# EAGLE library part XC5VLX110T-FF1738 (library xilinx-virtex-v5)
xc5vlx110t_ff1738 edit this description Auto generated by make-symbol-device-package-bsdl.ulp Rev. 21 Source: xc5vlx110t_ff1738.bsd Connect-List generated from XC5VLX110T_FF1738.DEV Variant '' with split-device-symbol.ulp
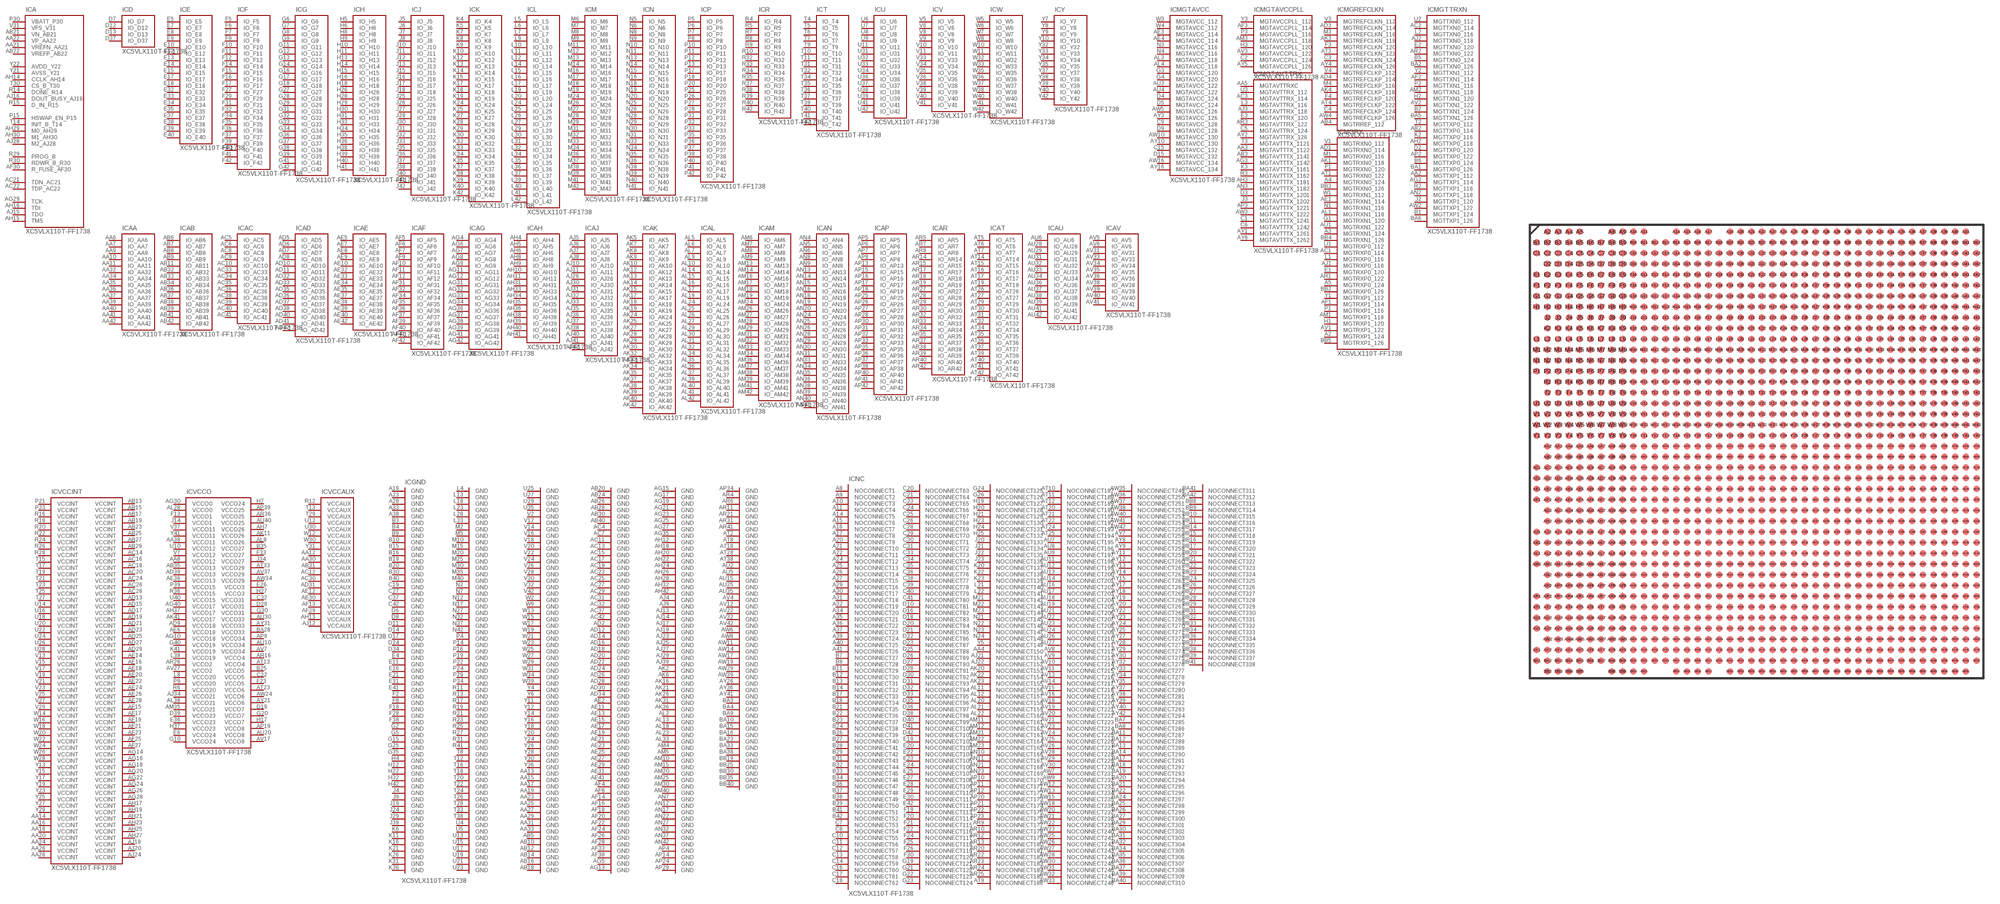
[diagram p1: symbol with the pads of FF1738; footprint FF1738]

Designator prefix IC; gates A=XC5VLX110T_FF1738-CONTROL D=XC5VLX110T_FF1738-IO-D E=XC5VLX110T_FF1738-IO-E F=XC5VLX110T_FF1738-IO-F G=XC5VLX110T_FF1738-IO-G H=XC5VLX110T_FF1738-IO-H J=XC5VLX110T_FF1738-IO-J K=XC5VLX110T_FF1738-IO-K L=XC5VLX110T_FF1738-IO-L M=XC5VLX110T_FF1738-IO-M N=XC5VLX110T_FF1738-IO-N P=XC5VLX110T_FF1738-IO-P R=XC5VLX110T_FF1738-IO-R T=XC5VLX110T_FF1738-IO-T U=XC5VLX110T_FF1738-IO-U V=XC5VLX110T_FF1738-IO-V W=XC5VLX110T_FF1738-IO-W Y=XC5VLX110T_FF1738-IO-Y AA=XC5VLX110T_FF1738-IO-AA AB=XC5VLX110T_FF1738-IO-AB AC=XC5VLX110T_FF1738-IO-AC AD=XC5VLX110T_FF1738-IO-AD AE=XC5VLX110T_FF1738-IO-AE AF=XC5VLX110T_FF1738-IO-AF AG=XC5VLX110T_FF1738-IO-AG AH=XC5VLX110T_FF1738-IO-AH AJ=XC5VLX110T_FF1738-IO-AJ AK=XC5VLX110T_FF1738-IO-AK AL=XC5VLX110T_FF1738-IO-AL AM=XC5VLX110T_FF1738-IO-AM AN=XC5VLX110T_FF1738-IO-AN AP=XC5VLX110T_FF1738-IO-AP AR=XC5VLX110T_FF1738-IO-AR AT=XC5VLX110T_FF1738-IO-AT AU=XC5VLX110T_FF1738-IO-AU AV=XC5VLX110T_FF1738-IO-AV MGTAVTTRX=XC5VLX110T_FF1738-MGTAVTTRX MGREFCLKN=XC5VLX110T_FF1738-MGTREFCLKN MGRX=XC5VLX110T_FF1738-MGTRX MGTTRXN=XC5VLX110T_FF1738-MGTTXN VCCINT=XC5VLX110T_FF1738-VCCINT VCCO=XC5VLX110T_FF1738-VCCO VCCAUX=XC5VLX110T_FF1738-VCCAUX MGTAVCC=XC5VLX110T_FF1738-MGTAVCC MGTAVCCPLL=XC5VLX110T_FF1738-MGTAVCCPLL GND=XC5VLX110T_FF1738-GND NC=XC5VLX110T_FF1738-NOCONNECT

## XC5VLX110T-FF1738  [FF1738]
A2  MGRX:MGTRXP1_124  pas
A3  MGRX:MGTRXN1_124  pas
A4  MGRX:MGTRXN0_124  pas
A5  MGRX:MGTRXP0_124  pas
A8  NC:NOCONNECT1  pas
A9  NC:NOCONNECT2  pas
A10  NC:NOCONNECT3  pas
A11  NC:NOCONNECT4  pas
A14  NC:NOCONNECT5  pas
A15  NC:NOCONNECT6  pas
A16  NC:NOCONNECT7  pas
A17  NC:NOCONNECT8  pas
A19  GND:GND  pwr
A20  NC:NOCONNECT9  pas
A21  NC:NOCONNECT10  pas
A22  NC:NOCONNECT11  pas
A23  GND:GND  pwr
A24  NC:NOCONNECT12  pas
A25  NC:NOCONNECT13  pas
A26  NC:NOCONNECT14  pas
A27  NC:NOCONNECT15  pas
A28  GND:GND  pwr
A29  NC:NOCONNECT16  pas
A30  NC:NOCONNECT17  pas
A31  NC:NOCONNECT18  pas
A32  NC:NOCONNECT19  pas
A33  GND:GND  pwr
A34  NC:NOCONNECT20  pas
A35  NC:NOCONNECT21  pas
A36  NC:NOCONNECT22  pas
A37  NC:NOCONNECT23  pas
A38  GND:GND  pwr
A39  NC:NOCONNECT24  pas
A40  NC:NOCONNECT25  pas
A41  NC:NOCONNECT26  pas
AA2  MGTTRXN:MGTTXP1_112  pas
AA3  MGTAVTTRX:MGTAVTTTX_1122  pas
AA4  NC:NOCONNECT150  pas
AA5  MGTAVTTRX:MGTAVTTRXC  pas
AA6  AA:IO_AA6
AA7  AA:IO_AA7
AA8  VCCO:VCCO12  pwr
AA9  AA:IO_AA9
AA10  AA:IO_AA10
AA11  AA:IO_AA11
AA12  VCCAUX:VCCAUX  pwr
AA13  GND:GND  pwr
AA14  VCCINT:VCCINT  pwr
AA15  GND:GND  pwr
AA16  VCCINT:VCCINT  pwr
AA17  GND:GND  pwr
AA18  VCCINT:VCCINT  pwr
AA19  GND:GND  pwr
AA20  VCCINT:VCCINT  pwr
AA21  A:VREFN_AA21  pas
AA22  A:VP_AA22  pas
AA23  GND:GND  pwr
AA24  VCCINT:VCCINT  pwr
AA25  GND:GND  pwr
AA26  VCCINT:VCCINT  pwr
AA27  GND:GND  pwr
AA28  VCCINT:VCCINT  pwr
AA29  GND:GND  pwr
AA30  VCCAUX:VCCAUX  pwr
AA31  GND:GND  pwr
AA32  AA:IO_AA32
AA33  GND:GND  pwr
AA34  AA:IO_AA34
AA35  AA:IO_AA35
AA36  AA:IO_AA36
AA37  AA:IO_AA37
AA38  VCCO:VCCO11  pwr
AA39  AA:IO_AA39
AA40  AA:IO_AA40
AA41  AA:IO_AA41
AA42  AA:IO_AA42
AB2  MGTTRXN:MGTTXP0_114  pas
AB3  MGTAVTTRX:MGTAVTTTX_1141  pas
AB4  MGREFCLKN:MGTRREF_112  pas
AB5  GND:GND  pwr
AB6  AB:IO_AB6
AB7  AB:IO_AB7
AB8  AB:IO_AB8
AB9  AB:IO_AB9
AB10  GND:GND  pwr
AB11  AB:IO_AB11
AB12  GND:GND  pwr
AB13  VCCINT:VCCINT  pwr
AB14  GND:GND  pwr
AB15  VCCINT:VCCINT  pwr
AB16  GND:GND  pwr
AB17  VCCINT:VCCINT  pwr
AB18  GND:GND  pwr
AB19  VCCINT:VCCINT  pwr
AB20  GND:GND  pwr
AB21  A:VN_AB21  pas
AB22  A:VREFP_AB22  pas
AB23  VCCINT:VCCINT  pwr
AB24  GND:GND  pwr
AB25  VCCINT:VCCINT  pwr
AB26  GND:GND  pwr
AB27  VCCINT:VCCINT  pwr
AB28  GND:GND  pwr
AB29  VCCINT:VCCINT  pwr
AB30  GND:GND  pwr
AB31  VCCAUX:VCCAUX  pwr
AB32  AB:IO_AB32
AB33  AB:IO_AB33
AB34  AB:IO_AB34
AB35  VCCO:VCCO13  pwr
AB36  AB:IO_AB36
AB37  AB:IO_AB37
AB38  AB:IO_AB38
AB39  AB:IO_AB39
AB40  GND:GND  pwr
AB41  AB:IO_AB41
AB42  AB:IO_AB42
AC1  MGRX:MGTRXP0_114  pas
AC2  MGTTRXN:MGTTXN0_114  pas
AC3  MGTAVTTRX:MGTAVTTRX_114  pas
AC4  GND:GND  pwr
AC5  AC:IO_AC5
AC6  AC:IO_AC6
AC7  GND:GND  pwr
AC8  AC:IO_AC8
AC9  AC:IO_AC9
AC10  AC:IO_AC10
AC11  GND:GND  pwr
AC12  VCCAUX:VCCAUX  pwr
AC13  GND:GND  pwr
AC14  VCCINT:VCCINT  pwr
AC15  GND:GND  pwr
AC16  VCCINT:VCCINT  pwr
AC17  GND:GND  pwr
AC18  VCCINT:VCCINT  pwr
AC19  GND:GND  pwr
AC20  VCCINT:VCCINT  pwr
AC21  A:TDN_AC21  pas
AC22  A:TDP_AC22  pas
AC23  GND:GND  pwr
AC24  VCCINT:VCCINT  pwr
AC25  GND:GND  pwr
AC26  VCCINT:VCCINT  pwr
AC27  GND:GND  pwr
AC28  VCCINT:VCCINT  pwr
AC29  GND:GND  pwr
AC30  VCCAUX:VCCAUX  pwr
AC31  GND:GND  pwr
AC32  GND:GND  pwr
AC33  AC:IO_AC33
AC34  AC:IO_AC34
AC35  AC:IO_AC35
AC36  AC:IO_AC36
AC37  GND:GND  pwr
AC38  AC:IO_AC38
AC39  AC:IO_AC39
AC40  AC:IO_AC40
AC41  AC:IO_AC41
AC42  GND:GND  pwr
AD1  MGRX:MGTRXN0_114  pas
AD2  GND:GND  pwr
AD3  MGREFCLKN:MGTREFCLKN_114  pas
AD4  MGREFCLKN:MGTREFCLKP_114  pas
AD5  AD:IO_AD5
AD6  AD:IO_AD6
AD7  AD:IO_AD7
AD8  AD:IO_AD8
AD9  VCCO:VCCO18  pwr
AD10  AD:IO_AD10
AD11  AD:IO_AD11
AD12  GND:GND  pwr
AD13  VCCINT:VCCINT  pwr
AD14  GND:GND  pwr
AD15  VCCINT:VCCINT  pwr
AD16  GND:GND  pwr
AD17  VCCINT:VCCINT  pwr
AD18  GND:GND  pwr
AD19  VCCINT:VCCINT  pwr
AD20  GND:GND  pwr
AD21  VCCINT:VCCINT  pwr
AD22  GND:GND  pwr
AD23  VCCINT:VCCINT  pwr
AD24  GND:GND  pwr
AD25  VCCINT:VCCINT  pwr
AD26  GND:GND  pwr
AD27  VCCINT:VCCINT  pwr
AD28  GND:GND  pwr
AD29  VCCINT:VCCINT  pwr
AD30  GND:GND  pwr
AD31  VCCAUX:VCCAUX  pwr
AD32  AD:IO_AD32
AD33  AD:IO_AD33
AD34  GND:GND  pwr
AD35  AD:IO_AD35
AD36  AD:IO_AD36
AD37  AD:IO_AD37
AD38  AD:IO_AD38
AD39  VCCO:VCCO13  pwr
AD40  AD:IO_AD40
AD41  AD:IO_AD41
AD42  AD:IO_AD42
AE1  MGRX:MGTRXN1_114  pas
AE2  GND:GND  pwr
AE3  MGTAVCC:MGTAVCC_114  pwr
AE4  MGTAVCC:MGTAVCC_114  pwr
AE5  AE:IO_AE5
AE6  VCCO:VCCO18  pwr
AE7  AE:IO_AE7
AE8  AE:IO_AE8
AE9  AE:IO_AE9
AE10  AE:IO_AE10
AE11  GND:GND  pwr
AE12  VCCAUX:VCCAUX  pwr
AE13  GND:GND  pwr
AE14  VCCINT:VCCINT  pwr
AE15  GND:GND  pwr
AE16  VCCINT:VCCINT  pwr
AE17  GND:GND  pwr
AE18  VCCINT:VCCINT  pwr
AE19  GND:GND  pwr
AE20  VCCINT:VCCINT  pwr
AE21  GND:GND  pwr
AE22  VCCINT:VCCINT  pwr
AE23  GND:GND  pwr
AE24  VCCINT:VCCINT  pwr
AE25  GND:GND  pwr
AE26  VCCINT:VCCINT  pwr
AE27  GND:GND  pwr
AE28  VCCINT:VCCINT  pwr
AE29  GND:GND  pwr
AE30  VCCAUX:VCCAUX  pwr
AE31  GND:GND  pwr
AE32  AE:IO_AE32
AE33  AE:IO_AE33
AE34  AE:IO_AE34
AE35  AE:IO_AE35
AE36  VCCO:VCCO13  pwr
AE37  AE:IO_AE37
AE38  AE:IO_AE38
AE39  AE:IO_AE39
AE40  AE:IO_AE40
AE41  GND:GND  pwr
AE42  AE:IO_AE42
AF1  MGRX:MGTRXP1_114  pas
AF2  MGTTRXN:MGTTXN1_114  pas
AF3  MGTAVCCPLL:MGTAVCCPLL_114  pwr
AF4  GND:GND  pwr
AF5  AF:IO_AF5
AF6  AF:IO_AF6
AF7  AF:IO_AF7
AF8  GND:GND  pwr
AF9  AF:IO_AF9
AF10  AF:IO_AF10
AF11  AF:IO_AF11
AF12  AF:IO_AF12
AF13  VCCAUX:VCCAUX  pwr
AF14  GND:GND  pwr
AF15  VCCINT:VCCINT  pwr
AF16  GND:GND  pwr
AF17  VCCINT:VCCINT  pwr
AF18  GND:GND  pwr
AF19  VCCINT:VCCINT  pwr
AF20  GND:GND  pwr
AF21  VCCINT:VCCINT  pwr
AF22  GND:GND  pwr
AF23  VCCINT:VCCINT  pwr
AF24  GND:GND  pwr
AF25  VCCINT:VCCINT  pwr
AF26  GND:GND  pwr
AF27  VCCINT:VCCINT  pwr
AF28  GND:GND  pwr
AF29  VCCAUX:VCCAUX  pwr
AF30  A:R_FUSE_AF30  pas
AF31  AF:IO_AF31
AF32  AF:IO_AF32
AF33  GND:GND  pwr
AF34  AF:IO_AF34
AF35  AF:IO_AF35
AF36  AF:IO_AF36
AF37  AF:IO_AF37
AF38  GND:GND  pwr
AF39  AF:IO_AF39
AF40  AF:IO_AF40
AF41  AF:IO_AF41
AF42  AF:IO_AF42
AG2  MGTTRXN:MGTTXP1_114  pas
AG3  MGTAVTTRX:MGTAVTTTX_1142  pas
AG4  AG:IO_AG4
AG5  GND:GND  pwr
AG6  AG:IO_AG6
AG7  AG:IO_AG7
AG8  AG:IO_AG8
AG9  AG:IO_AG9
AG10  VCCO:VCCO18  pwr
AG11  AG:IO_AG11
AG12  AG:IO_AG12
AG13  GND:GND  pwr
AG14  VCCINT:VCCINT  pwr
AG15  GND:GND  pwr
AG16  VCCINT:VCCINT  pwr
AG17  GND:GND  pwr
AG18  VCCINT:VCCINT  pwr
AG19  GND:GND  pwr
AG20  VCCINT:VCCINT  pwr
AG21  GND:GND  pwr
AG22  VCCINT:VCCINT  pwr
AG23  GND:GND  pwr
AG24  VCCINT:VCCINT  pwr
AG25  GND:GND  pwr
AG26  VCCINT:VCCINT  pwr
AG27  GND:GND  pwr
AG28  VCCINT:VCCINT  pwr
AG29  A:TCK  in
AG30  VCCO:VCCO0  pwr
AG31  AG:IO_AG31
AG32  AG:IO_AG32
AG33  AG:IO_AG33
AG34  AG:IO_AG34
AG35  GND:GND  pwr
AG36  AG:IO_AG36
AG37  AG:IO_AG37
AG38  AG:IO_AG38
AG39  AG:IO_AG39
AG40  VCCO:VCCO17  pwr
AG41  AG:IO_AG41
AG42  AG:IO_AG42
AH2  MGTTRXN:MGTTXP0_118  pas
AH3  MGTAVTTRX:MGTAVTTTX_1181  pas
AH4  AH:IO_AH4
AH5  AH:IO_AH5
AH6  AH:IO_AH6
AH7  VCCO:VCCO26  pwr
AH8  AH:IO_AH8
AH9  AH:IO_AH9
AH10  AH:IO_AH10
AH11  AH:IO_AH11
AH12  GND:GND  pwr
AH13  VCCAUX:VCCAUX  pwr
AH14  A:CCLK_AH14
AH15  A:TMS  in
AH16  A:TDI  in
AH17  VCCINT:VCCINT  pwr
AH18  GND:GND  pwr
AH19  VCCINT:VCCINT  pwr
AH20  GND:GND  pwr
AH21  VCCINT:VCCINT  pwr
AH22  GND:GND  pwr
AH23  VCCINT:VCCINT  pwr
AH24  GND:GND  pwr
AH25  VCCINT:VCCINT  pwr
AH26  GND:GND  pwr
AH27  VCCINT:VCCINT  pwr
AH28  GND:GND  pwr
AH29  A:M0_AH29  in
AH30  A:M1_AH30  in
AH31  AH:IO_AH31
AH32  GND:GND  pwr
AH33  AH:IO_AH33
AH34  AH:IO_AH34
AH35  AH:IO_AH35
AH36  AH:IO_AH36
AH37  VCCO:VCCO17  pwr
AH38  AH:IO_AH38
AH39  AH:IO_AH39
AH40  AH:IO_AH40
AH41  AH:IO_AH41
AH42  GND:GND  pwr
AJ1  MGRX:MGTRXP0_118  pas
AJ2  MGTTRXN:MGTTXN0_118  pas
AJ3  MGTAVTTRX:MGTAVTTRX_118  pas
AJ4  GND:GND  pwr
AJ5  AJ:IO_AJ5
AJ6  AJ:IO_AJ6
AJ7  AJ:IO_AJ7
AJ8  AJ:IO_AJ8
AJ9  GND:GND  pwr
AJ10  AJ:IO_AJ10
AJ11  AJ:IO_AJ11
AJ12  VCCAUX:VCCAUX  pwr
AJ13  GND:GND  pwr
AJ14  GND:GND  pwr
AJ15  A:TDO  out
AJ16  A:DOUT_BUSY_AJ16  out
AJ17  GND:GND  pwr
AJ18  VCCINT:VCCINT  pwr
AJ19  GND:GND  pwr
AJ20  VCCINT:VCCINT  pwr
AJ21  NC:NOCONNECT151  pas
AJ22  NC:NOCONNECT152  pas
AJ23  GND:GND  pwr
AJ24  VCCINT:VCCINT  pwr
AJ25  GND:GND  pwr
AJ26  AJ:IO_AJ26
AJ27  GND:GND  pwr
AJ28  A:M2_AJ28  in
AJ29  GND:GND  pwr
AJ30  AJ:IO_AJ30
AJ31  AJ:IO_AJ31
AJ32  AJ:IO_AJ32
AJ33  AJ:IO_AJ33
AJ34  VCCO:VCCO21  pwr
AJ35  AJ:IO_AJ35
AJ36  AJ:IO_AJ36
AJ37  AJ:IO_AJ37
AJ38  AJ:IO_AJ38
AJ39  GND:GND  pwr
AJ40  AJ:IO_AJ40
AJ41  AJ:IO_AJ41
AJ42  AJ:IO_AJ42
AK1  MGRX:MGTRXN0_118  pas
AK2  GND:GND  pwr
AK3  MGREFCLKN:MGTREFCLKN_118  pas
AK4  MGREFCLKN:MGTREFCLKP_118  pas
AK5  AK:IO_AK5
AK6  GND:GND  pwr
AK7  AK:IO_AK7
AK8  AK:IO_AK8
AK9  AK:IO_AK9
AK10  AK:IO_AK10
AK11  VCCO:VCCO26  pwr
AK12  AK:IO_AK12
AK13  AK:IO_AK13
AK14  AK:IO_AK14
AK15  AK:IO_AK15
AK16  GND:GND  pwr
AK17  AK:IO_AK17
AK18  AK:IO_AK18
AK19  AK:IO_AK19
AK20  NC:NOCONNECT153  pas
AK21  GND:GND  pwr
AK22  NC:NOCONNECT154  pas
AK23  NC:NOCONNECT155  pas
AK24  AK:IO_AK24
AK25  AK:IO_AK25
AK26  GND:GND  pwr
AK27  AK:IO_AK27
AK28  AK:IO_AK28
AK29  AK:IO_AK29
AK30  AK:IO_AK30
AK31  GND:GND  pwr
AK32  AK:IO_AK32
AK33  AK:IO_AK33
AK34  AK:IO_AK34
AK35  AK:IO_AK35
AK36  GND:GND  pwr
AK37  AK:IO_AK37
AK38  AK:IO_AK38
AK39  AK:IO_AK39
AK40  AK:IO_AK40
AK41  VCCO:VCCO17  pwr
AK42  AK:IO_AK42
AL1  MGRX:MGTRXN1_118  pas
AL2  GND:GND  pwr
AL3  MGTAVCC:MGTAVCC_118  pwr
AL4  MGTAVCC:MGTAVCC_118  pwr
AL5  AL:IO_AL5
AL6  AL:IO_AL6
AL7  AL:IO_AL7
AL8  VCCO:VCCO26  pwr
AL9  AL:IO_AL9
AL10  AL:IO_AL10
AL11  NC:NOCONNECT156  pas
AL12  NC:NOCONNECT157  pas
AL13  GND:GND  pwr
AL14  AL:IO_AL14
AL15  AL:IO_AL15
AL16  AL:IO_AL16
AL17  AL:IO_AL17
AL18  GND:GND  pwr
AL19  AL:IO_AL19
AL20  NC:NOCONNECT158  pas
AL21  NC:NOCONNECT159  pas
AL22  NC:NOCONNECT160  pas
AL23  GND:GND  pwr
AL24  AL:IO_AL24
AL25  AL:IO_AL25
AL26  AL:IO_AL26
AL27  AL:IO_AL27
AL28  VCCO:VCCO0  pwr
AL29  AL:IO_AL29
AL30  AL:IO_AL30
AL31  AL:IO_AL31
AL32  AL:IO_AL32
AL33  GND:GND  pwr
AL34  AL:IO_AL34
AL35  AL:IO_AL35
AL36  AL:IO_AL36
AL37  AL:IO_AL37
AL38  VCCO:VCCO21  pwr
AL39  AL:IO_AL39
AL40  AL:IO_AL40
AL41  AL:IO_AL41
AL42  AL:IO_AL42
AM1  MGRX:MGTRXP1_118  pas
AM2  MGTTRXN:MGTTXN1_118  pas
AM3  MGTAVCCPLL:MGTAVCCPLL_118  pwr
AM4  GND:GND  pwr
AM5  GND:GND  pwr
AM6  AM:IO_AM6
AM7  AM:IO_AM7
AM8  AM:IO_AM8
AM9  AM:IO_AM9
AM10  GND:GND  pwr
AM11  NC:NOCONNECT161  pas
AM12  NC:NOCONNECT162  pas
AM13  AM:IO_AM13
AM14  AM:IO_AM14
AM15  GND:GND  pwr
AM16  AM:IO_AM16
AM17  AM:IO_AM17
AM18  AM:IO_AM18
AM19  AM:IO_AM19
AM20  GND:GND  pwr
AM21  NC:NOCONNECT163  pas
AM22  NC:NOCONNECT164  pas
AM23  NC:NOCONNECT165  pas
AM24  AM:IO_AM24
AM25  GND:GND  pwr
AM26  AM:IO_AM26
AM27  AM:IO_AM27
AM28  AM:IO_AM28
AM29  AM:IO_AM29
AM30  GND:GND  pwr
AM31  AM:IO_AM31
AM32  AM:IO_AM32
AM33  AM:IO_AM33
AM34  AM:IO_AM34
AM35  VCCO:VCCO21  pwr
AM36  AM:IO_AM36
AM37  AM:IO_AM37
AM38  AM:IO_AM38
AM39  AM:IO_AM39
AM40  GND:GND  pwr
AM41  AM:IO_AM41
AM42  AM:IO_AM42
AN2  MGTTRXN:MGTTXP1_118  pas
AN3  MGTAVTTRX:MGTAVTTTX_1182  pas
AN4  AN:IO_AN4
AN5  AN:IO_AN5
AN6  AN:IO_AN6
AN7  GND:GND  pwr
AN8  AN:IO_AN8
AN9  AN:IO_AN9
AN10  NC:NOCONNECT166  pas
AN11  NC:NOCONNECT167  pas
AN12  GND:GND  pwr
AN13  AN:IO_AN13
AN14  AN:IO_AN14
AN15  AN:IO_AN15
AN16  AN:IO_AN16
AN17  GND:GND  pwr
AN18  AN:IO_AN18
AN19  AN:IO_AN19
AN20  AN:IO_AN20
AN21  NC:NOCONNECT168  pas
AN22  GND:GND  pwr
AN23  NC:NOCONNECT169  pas
AN24  AN:IO_AN24
AN25  AN:IO_AN25
AN26  AN:IO_AN26
AN27  GND:GND  pwr
AN28  AN:IO_AN28
AN29  AN:IO_AN29
AN30  AN:IO_AN30
AN31  AN:IO_AN31
AN32  GND:GND  pwr
AN33  AN:IO_AN33
AN34  AN:IO_AN34
AN35  AN:IO_AN35
AN36  AN:IO_AN36
AN37  GND:GND  pwr
AN38  AN:IO_AN38
AN39  AN:IO_AN39
AN40  AN:IO_AN40
AN41  AN:IO_AN41
AN42  GND:GND  pwr
AP2  MGTTRXN:MGTTXP0_122  pas
AP3  MGTAVTTRX:MGTAVTTTX_1221  pas
AP4  GND:GND  pwr
AP5  AP:IO_AP5
AP6  AP:IO_AP6
AP7  AP:IO_AP7
AP8  AP:IO_AP8
AP9  VCCO:VCCO34  pwr
AP10  NC:NOCONNECT170  pas
AP11  NC:NOCONNECT171  pas
AP12  NC:NOCONNECT172  pas
AP13  AP:IO_AP13
AP14  GND:GND  pwr
AP15  AP:IO_AP15
AP16  AP:IO_AP16
AP17  AP:IO_AP17
AP18  AP:IO_AP18
AP19  VCCO:VCCO8  pwr
AP20  NC:NOCONNECT173  pas
AP21  NC:NOCONNECT174  pas
AP22  NC:NOCONNECT175  pas
AP23  NC:NOCONNECT176  pas
AP24  GND:GND  pwr
AP25  AP:IO_AP25
AP26  AP:IO_AP26
AP27  AP:IO_AP27
AP28  AP:IO_AP28
AP29  GND:GND  pwr
AP30  AP:IO_AP30
AP31  AP:IO_AP31
AP32  AP:IO_AP32
AP33  AP:IO_AP33
AP34  GND:GND  pwr
AP35  AP:IO_AP35
AP36  AP:IO_AP36
AP37  AP:IO_AP37
AP38  AP:IO_AP38
AP39  VCCO:VCCO25  pwr
AP40  AP:IO_AP40
AP41  AP:IO_AP41
AP42  AP:IO_AP42
AR1  MGRX:MGTRXP0_122  pas
AR2  MGTTRXN:MGTTXN0_122  pas
AR3  MGTAVTTRX:MGTAVTTRX_122  pas
AR4  GND:GND  pwr
AR5  AR:IO_AR5
AR6  GND:GND  pwr
AR7  AR:IO_AR7
AR8  AR:IO_AR8
AR9  NC:NOCONNECT177  pas
AR10  NC:NOCONNECT178  pas
AR11  GND:GND  pwr
AR12  NC:NOCONNECT179  pas
AR13  NC:NOCONNECT180  pas
AR14  AR:IO_AR14
AR15  AR:IO_AR15
AR16  VCCO:VCCO4  pwr
AR17  AR:IO_AR17
AR18  AR:IO_AR18
AR19  AR:IO_AR19
AR20  NC:NOCONNECT181  pas
AR21  GND:GND  pwr
AR22  NC:NOCONNECT182  pas
AR23  NC:NOCONNECT183  pas
AR24  NC:NOCONNECT184  pas
AR25  NC:NOCONNECT185  pas
AR26  VCCO:VCCO2  pwr
AR27  AR:IO_AR27
AR28  AR:IO_AR28
AR29  AR:IO_AR29
AR30  AR:IO_AR30
AR31  GND:GND  pwr
AR32  AR:IO_AR32
AR33  AR:IO_AR33
AR34  AR:IO_AR34
AR35  AR:IO_AR35
AR36  VCCO:VCCO25  pwr
AR37  AR:IO_AR37
AR38  AR:IO_AR38
AR39  AR:IO_AR39
AR40  AR:IO_AR40
AR41  GND:GND  pwr
AR42  AR:IO_AR42
AT1  MGRX:MGTRXN0_122  pas
AT2  GND:GND  pwr
AT3  MGREFCLKN:MGTREFCLKN_122  pas
AT4  MGREFCLKN:MGTREFCLKP_122  pas
AT5  AT:IO_AT5
AT6  AT:IO_AT6
AT7  AT:IO_AT7
AT8  GND:GND  pwr
AT9  NC:NOCONNECT186  pas
AT10  NC:NOCONNECT187  pas
AT11  NC:NOCONNECT188  pas
AT12  NC:NOCONNECT189  pas
AT13  VCCO:VCCO4  pwr
AT14  AT:IO_AT14
AT15  AT:IO_AT15
AT16  AT:IO_AT16
AT17  AT:IO_AT17
AT18  GND:GND  pwr
AT19  AT:IO_AT19
AT20  NC:NOCONNECT190  pas
AT21  NC:NOCONNECT191  pas
AT22  NC:NOCONNECT192  pas
AT23  VCCO:VCCO6  pwr
AT24  NC:NOCONNECT193  pas
AT25  NC:NOCONNECT194  pas
AT26  AT:IO_AT26
AT27  AT:IO_AT27
AT28  GND:GND  pwr
AT29  AT:IO_AT29
AT30  AT:IO_AT30
AT31  AT:IO_AT31
AT32  AT:IO_AT32
AT33  VCCO:VCCO29  pwr
AT34  AT:IO_AT34
AT35  AT:IO_AT35
AT36  AT:IO_AT36
AT37  AT:IO_AT37
AT38  GND:GND  pwr
AT39  AT:IO_AT39
AT40  AT:IO_AT40
AT41  AT:IO_AT41
AT42  AT:IO_AT42
AU1  MGRX:MGTRXN1_122  pas
AU2  GND:GND  pwr
AU3  MGTAVCC:MGTAVCC_122  pwr
AU4  MGTAVCC:MGTAVCC_122  pwr
AU5  GND:GND  pwr
AU6  AU:IO_AU6
AU7  NC:NOCONNECT195  pas
AU8  NC:NOCONNECT196  pas
AU9  NC:NOCONNECT197  pas
AU10  VCCO:VCCO34  pwr
AU11  NC:NOCONNECT198  pas
AU12  NC:NOCONNECT199  pas
AU13  NC:NOCONNECT200  pas
AU14  NC:NOCONNECT201  pas
AU15  GND:GND  pwr
AU16  NC:NOCONNECT202  pas
AU17  NC:NOCONNECT203  pas
AU18  NC:NOCONNECT204  pas
AU19  NC:NOCONNECT205  pas
AU20  VCCO:VCCO8  pwr
AU21  NC:NOCONNECT206  pas
AU22  NC:NOCONNECT207  pas
AU23  NC:NOCONNECT208  pas
AU24  NC:NOCONNECT209  pas
AU25  GND:GND  pwr
AU26  NC:NOCONNECT210  pas
AU27  NC:NOCONNECT211  pas
AU28  AU:IO_AU28
AU29  AU:IO_AU29
AU30  VCCO:VCCO33  pwr
AU31  AU:IO_AU31
AU32  AU:IO_AU32
AU33  AU:IO_AU33
AU34  AU:IO_AU34
AU35  GND:GND  pwr
AU36  AU:IO_AU36
AU37  AU:IO_AU37
AU38  AU:IO_AU38
AU39  AU:IO_AU39
AU40  VCCO:VCCO25  pwr
AU41  AU:IO_AU41
AU42  AU:IO_AU42
AV1  MGRX:MGTRXP1_122  pas
AV2  MGTTRXN:MGTTXN1_122  pas
AV3  MGTAVCCPLL:MGTAVCCPLL_122  pwr
AV4  GND:GND  pwr
AV5  AV:IO_AV5
AV6  AV:IO_AV6
AV7  VCCO:VCCO34  pwr
AV8  NC:NOCONNECT212  pas
AV9  NC:NOCONNECT213  pas
AV10  NC:NOCONNECT214  pas
AV11  NC:NOCONNECT215  pas
AV12  GND:GND  pwr
AV13  NC:NOCONNECT216  pas
AV14  NC:NOCONNECT217  pas
AV15  NC:NOCONNECT218  pas
AV16  NC:NOCONNECT219  pas
AV17  VCCO:VCCO8  pwr
AV18  NC:NOCONNECT220  pas
AV19  NC:NOCONNECT221  pas
AV20  NC:NOCONNECT222  pas
AV21  NC:NOCONNECT223  pas
AV22  GND:GND  pwr
AV23  NC:NOCONNECT224  pas
AV24  NC:NOCONNECT225  pas
AV25  NC:NOCONNECT226  pas
AV26  NC:NOCONNECT227  pas
AV27  VCCO:VCCO2  pwr
AV28  NC:NOCONNECT228  pas
AV29  NC:NOCONNECT229  pas
AV30  NC:NOCONNECT230  pas
AV31  AV:IO_AV31
AV32  GND:GND  pwr
AV33  AV:IO_AV33
AV34  AV:IO_AV34
AV35  AV:IO_AV35
AV36  AV:IO_AV36
AV37  VCCO:VCCO29  pwr
AV38  AV:IO_AV38
AV39  AV:IO_AV39
AV40  AV:IO_AV40
AV41  AV:IO_AV41
AV42  GND:GND  pwr
AW2  MGTTRXN:MGTTXP1_122  pas
AW3  MGTAVTTRX:MGTAVTTTX_1222  pas
AW4  MGREFCLKN:MGTREFCLKP_126  pas
AW5  MGTAVCC:MGTAVCC_126  pwr
AW6  GND:GND  pwr
AW7  NC:NOCONNECT231  pas
AW8  GND:GND  pwr
AW9  NC:NOCONNECT232  pas
AW10  MGTAVCC:MGTAVCC_130  pwr
AW11  GND:GND  pwr
AW12  NC:NOCONNECT233  pas
AW13  NC:NOCONNECT234  pas
AW14  GND:GND  pwr
AW15  NC:NOCONNECT235  pas
AW16  MGTAVCC:MGTAVCC_134  pwr
AW17  GND:GND  pwr
AW18  NC:NOCONNECT236  pas
AW19  GND:GND  pwr
AW20  NC:NOCONNECT237  pas
AW21  NC:NOCONNECT238  pas
AW22  NC:NOCONNECT239  pas
AW23  NC:NOCONNECT240  pas
AW24  VCCO:VCCO6  pwr
AW25  NC:NOCONNECT241  pas
AW26  NC:NOCONNECT242  pas
AW27  NC:NOCONNECT243  pas
AW28  NC:NOCONNECT244  pas
AW29  GND:GND  pwr
AW30  NC:NOCONNECT245  pas
AW31  NC:NOCONNECT246  pas
AW32  NC:NOCONNECT247  pas
AW33  NC:NOCONNECT248  pas
AW34  VCCO:VCCO29  pwr
AW35  NC:NOCONNECT249  pas
AW36  NC:NOCONNECT250  pas
AW37  NC:NOCONNECT251  pas
AW38  NC:NOCONNECT252  pas
AW39  GND:GND  pwr
AW40  NC:NOCONNECT253  pas
AW41  NC:NOCONNECT254  pas
AW42  NC:NOCONNECT255  pas
AY1  MGTAVTTRX:MGTAVTTTX_1261  pas
AY2  MGTAVTTRX:MGTAVTTRX_126  pas
AY3  MGTAVCC:MGTAVCC_126  pwr
AY4  MGREFCLKN:MGTREFCLKN_126  pas
AY5  MGTAVCCPLL:MGTAVCCPLL_126  pwr
AY6  MGTAVTTRX:MGTAVTTTX_1262  pas
AY7  NC:NOCONNECT256  pas
AY8  NC:NOCONNECT257  pas
AY9  NC:NOCONNECT258  pas
AY10  MGTAVCC:MGTAVCC_130  pwr
AY11  NC:NOCONNECT259  pas
AY12  NC:NOCONNECT260  pas
AY13  NC:NOCONNECT261  pas
AY14  NC:NOCONNECT262  pas
AY15  NC:NOCONNECT263  pas
AY16  MGTAVCC:MGTAVCC_134  pwr
AY17  NC:NOCONNECT264  pas
AY18  NC:NOCONNECT265  pas
AY19  NC:NOCONNECT266  pas
AY20  NC:NOCONNECT267  pas
AY21  VCCO:VCCO6  pwr
AY22  NC:NOCONNECT268  pas
AY23  NC:NOCONNECT269  pas
AY24  NC:NOCONNECT270  pas
AY25  NC:NOCONNECT271  pas
AY26  GND:GND  pwr
AY27  NC:NOCONNECT272  pas
AY28  NC:NOCONNECT273  pas
AY29  NC:NOCONNECT274  pas
AY30  NC:NOCONNECT275  pas
AY31  VCCO:VCCO33  pwr
AY32  NC:NOCONNECT276  pas
AY33  NC:NOCONNECT277  pas
AY34  NC:NOCONNECT278  pas
AY35  NC:NOCONNECT279  pas
AY36  GND:GND  pwr
AY37  NC:NOCONNECT280  pas
AY38  NC:NOCONNECT281  pas
AY39  NC:NOCONNECT282  pas
AY40  NC:NOCONNECT283  pas
AY41  GND:GND  pwr
AY42  NC:NOCONNECT284  pas
B1  MGTTRXN:MGTTXP1_124  pas
B2  MGTTRXN:MGTTXN1_124  pas
B3  GND:GND  pwr
B4  GND:GND  pwr
B5  MGTTRXN:MGTTXN0_124  pas
B6  MGTTRXN:MGTTXP0_124  pas
B7  NC:NOCONNECT27  pas
B8  NC:NOCONNECT28  pas
B9  GND:GND  pwr
B10  GND:GND  pwr
B11  NC:NOCONNECT29  pas
B12  NC:NOCONNECT30  pas
B13  NC:NOCONNECT31  pas
B14  NC:NOCONNECT32  pas
B15  GND:GND  pwr
B16  GND:GND  pwr
B17  NC:NOCONNECT33  pas
B18  NC:NOCONNECT34  pas
B19  GND:GND  pwr
B20  GND:GND  pwr
B21  NC:NOCONNECT35  pas
B22  NC:NOCONNECT36  pas
B23  NC:NOCONNECT37  pas
B24  NC:NOCONNECT38  pas
B25  VCCO:VCCO5  pwr
B26  NC:NOCONNECT39  pas
B27  NC:NOCONNECT40  pas
B28  NC:NOCONNECT41  pas
B29  NC:NOCONNECT42  pas
B30  GND:GND  pwr
B31  NC:NOCONNECT43  pas
B32  NC:NOCONNECT44  pas
B33  NC:NOCONNECT45  pas
B34  NC:NOCONNECT46  pas
B35  VCCO:VCCO27  pwr
B36  NC:NOCONNECT47  pas
B37  NC:NOCONNECT48  pas
B38  NC:NOCONNECT49  pas
B39  NC:NOCONNECT50  pas
B40  GND:GND  pwr
B41  NC:NOCONNECT51  pas
B42  NC:NOCONNECT52  pas
BA1  MGTTRXN:MGTTXP0_126  pas
BA2  MGTTRXN:MGTTXN0_126  pas
BA3  GND:GND  pwr
BA4  GND:GND  pwr
BA5  MGTTRXN:MGTTXN1_126  pas
BA6  MGTTRXN:MGTTXP1_126  pas
BA7  NC:NOCONNECT285  pas
BA8  NC:NOCONNECT286  pas
BA9  GND:GND  pwr
BA10  GND:GND  pwr
BA11  NC:NOCONNECT287  pas
BA12  NC:NOCONNECT288  pas
BA13  NC:NOCONNECT289  pas
BA14  NC:NOCONNECT290  pas
BA15  GND:GND  pwr
BA16  GND:GND  pwr
BA17  NC:NOCONNECT291  pas
BA18  NC:NOCONNECT292  pas
BA19  NC:NOCONNECT293  pas
BA20  NC:NOCONNECT294  pas
BA21  NC:NOCONNECT295  pas
BA22  NC:NOCONNECT296  pas
BA23  GND:GND  pwr
BA24  NC:NOCONNECT297  pas
BA25  NC:NOCONNECT298  pas
BA26  NC:NOCONNECT299  pas
BA27  NC:NOCONNECT300  pas
BA28  VCCO:VCCO33  pwr
BA29  NC:NOCONNECT301  pas
BA30  NC:NOCONNECT302  pas
BA31  NC:NOCONNECT303  pas
BA32  NC:NOCONNECT304  pas
BA33  GND:GND  pwr
BA34  NC:NOCONNECT305  pas
BA35  NC:NOCONNECT306  pas
BA36  NC:NOCONNECT307  pas
BA37  NC:NOCONNECT308  pas
BA38  GND:GND  pwr
BA39  NC:NOCONNECT309  pas
BA40  NC:NOCONNECT310  pas
BA41  NC:NOCONNECT311  pas
BA42  NC:NOCONNECT312  pas
BB2  MGRX:MGTRXP0_126  pas
BB3  MGRX:MGTRXN0_126  pas
BB4  MGRX:MGTRXN1_126  pas
BB5  MGRX:MGTRXP1_126  pas
BB8  NC:NOCONNECT313  pas
BB9  NC:NOCONNECT314  pas
BB10  NC:NOCONNECT315  pas
BB11  NC:NOCONNECT316  pas
BB14  NC:NOCONNECT317  pas
BB15  NC:NOCONNECT318  pas
BB16  NC:NOCONNECT319  pas
BB17  NC:NOCONNECT320  pas
BB19  GND:GND  pwr
BB20  NC:NOCONNECT321  pas
BB21  NC:NOCONNECT322  pas
BB22  NC:NOCONNECT323  pas
BB23  NC:NOCONNECT324  pas
BB24  NC:NOCONNECT325  pas
BB25  GND:GND  pwr
BB26  NC:NOCONNECT326  pas
BB27  NC:NOCONNECT327  pas
BB28  NC:NOCONNECT328  pas
BB29  NC:NOCONNECT329  pas
BB30  GND:GND  pwr
BB31  NC:NOCONNECT330  pas
BB32  NC:NOCONNECT331  pas
BB33  NC:NOCONNECT332  pas
BB34  NC:NOCONNECT333  pas
BB35  GND:GND  pwr
BB36  NC:NOCONNECT334  pas
BB37  NC:NOCONNECT335  pas
BB38  NC:NOCONNECT336  pas
BB39  NC:NOCONNECT337  pas
BB40  GND:GND  pwr
BB41  NC:NOCONNECT338  pas
C1  MGTAVTTRX:MGTAVTTTX_1241  pas
C2  MGTAVCCPLL:MGTAVCCPLL_124  pwr
C3  MGREFCLKN:MGTREFCLKN_124  pas
C4  MGREFCLKN:MGTREFCLKP_124  pas
C5  MGTAVTTRX:MGTAVTTRX_124  pas
C6  MGTAVTTRX:MGTAVTTTX_1242  pas
C7  NC:NOCONNECT53  pas
C8  NC:NOCONNECT54  pas
C9  MGTAVCC:MGTAVCC_128  pwr
C10  NC:NOCONNECT55  pas
C11  NC:NOCONNECT56  pas
C12  NC:NOCONNECT57  pas
C13  NC:NOCONNECT58  pas
C14  NC:NOCONNECT59  pas
C15  MGTAVCC:MGTAVCC_132  pwr
C16  NC:NOCONNECT60  pas
C17  NC:NOCONNECT61  pas
C18  NC:NOCONNECT62  pas
C19  GND:GND  pwr
C20  NC:NOCONNECT63  pas
C21  NC:NOCONNECT64  pas
C22  VCCO:VCCO5  pwr
C23  NC:NOCONNECT65  pas
C24  NC:NOCONNECT66  pas
C25  NC:NOCONNECT67  pas
C26  NC:NOCONNECT68  pas
C27  GND:GND  pwr
C28  NC:NOCONNECT69  pas
C29  NC:NOCONNECT70  pas
C30  NC:NOCONNECT71  pas
C31  NC:NOCONNECT72  pas
C32  VCCO:VCCO31  pwr
C33  NC:NOCONNECT73  pas
C34  NC:NOCONNECT74  pas
C35  NC:NOCONNECT75  pas
C36  NC:NOCONNECT76  pas
C37  GND:GND  pwr
C38  NC:NOCONNECT77  pas
C39  NC:NOCONNECT78  pas
C40  NC:NOCONNECT79  pas
C41  NC:NOCONNECT80  pas
C42  GND:GND  pwr
D2  MGTTRXN:MGTTXP0_120  pas
D3  MGTAVTTRX:MGTAVTTTX_1201  pas
D4  MGTAVCC:MGTAVCC_124  pwr
D5  MGTAVCC:MGTAVCC_124  pwr
D6  GND:GND  pwr
D7  D:IO_D7
D8  GND:GND  pwr
D9  MGTAVCC:MGTAVCC_128  pwr
D10  NC:NOCONNECT81  pas
D11  GND:GND  pwr
D12  D:IO_D12
D13  D:IO_D13
D14  GND:GND  pwr
D15  MGTAVCC:MGTAVCC_132  pwr
D16  NC:NOCONNECT82  pas
D17  GND:GND  pwr
D18  NC:NOCONNECT83  pas
D19  VCCO:VCCO7  pwr
D20  NC:NOCONNECT84  pas
D21  NC:NOCONNECT85  pas
D22  NC:NOCONNECT86  pas
D23  NC:NOCONNECT87  pas
D24  GND:GND  pwr
D25  NC:NOCONNECT88  pas
D26  NC:NOCONNECT89  pas
D27  NC:NOCONNECT90  pas
D28  NC:NOCONNECT91  pas
D29  VCCO:VCCO31  pwr
D30  NC:NOCONNECT92  pas
D31  NC:NOCONNECT93  pas
D32  NC:NOCONNECT94  pas
D33  NC:NOCONNECT95  pas
D34  GND:GND  pwr
D35  NC:NOCONNECT96  pas
D36  NC:NOCONNECT97  pas
D37  D:IO_D37
D38  NC:NOCONNECT98  pas
D39  VCCO:VCCO23  pwr
D40  NC:NOCONNECT99  pas
D41  NC:NOCONNECT100  pas
D42  NC:NOCONNECT101  pas
E1  MGRX:MGTRXP0_120  pas
E2  MGTTRXN:MGTTXN0_120  pas
E3  MGTAVTTRX:MGTAVTTRX_120  pas
E4  GND:GND  pwr
E5  E:IO_E5
E6  VCCO:VCCO24  pwr
E7  E:IO_E7
E8  E:IO_E8
E9  E:IO_E9
E10  E:IO_E10
E11  GND:GND  pwr
E12  E:IO_E12
E13  E:IO_E13
E14  E:IO_E14
E15  E:IO_E15
E16  GND:GND  pwr
E17  E:IO_E17
E18  E:IO_E18
E19  NC:NOCONNECT102  pas
E20  NC:NOCONNECT103  pas
E21  GND:GND  pwr
E22  NC:NOCONNECT104  pas
E23  NC:NOCONNECT105  pas
E24  NC:NOCONNECT106  pas
E25  NC:NOCONNECT107  pas
E26  VCCO:VCCO3  pwr
E27  NC:NOCONNECT108  pas
E28  NC:NOCONNECT109  pas
E29  NC:NOCONNECT110  pas
E30  NC:NOCONNECT111  pas
E31  GND:GND  pwr
E32  E:IO_E32
E33  E:IO_E33
E34  E:IO_E34
E35  E:IO_E35
E36  VCCO:VCCO23  pwr
E37  E:IO_E37
E38  E:IO_E38
E39  E:IO_E39
E40  E:IO_E40
E41  GND:GND  pwr
E42  NC:NOCONNECT112  pas
F1  MGRX:MGTRXN0_120  pas
F2  GND:GND  pwr
F3  MGREFCLKN:MGTREFCLKN_120  pas
F4  MGREFCLKN:MGTREFCLKP_120  pas
F5  F:IO_F5
F6  F:IO_F6
F7  F:IO_F7
F8  GND:GND  pwr
F9  F:IO_F9
F10  F:IO_F10
F11  F:IO_F11
F12  F:IO_F12
F13  VCCO:VCCO1  pwr
F14  F:IO_F14
F15  F:IO_F15
F16  F:IO_F16
F17  F:IO_F17
F18  GND:GND  pwr
F19  NC:NOCONNECT113  pas
F20  NC:NOCONNECT114  pas
F21  NC:NOCONNECT115  pas
F22  NC:NOCONNECT116  pas
F23  VCCO:VCCO5  pwr
F24  NC:NOCONNECT117  pas
F25  NC:NOCONNECT118  pas
F26  NC:NOCONNECT119  pas
F27  F:IO_F27
F28  GND:GND  pwr
F29  F:IO_F29
F30  NC:NOCONNECT120  pas
F31  F:IO_F31
F32  F:IO_F32
F33  VCCO:VCCO27  pwr
F34  F:IO_F34
F35  F:IO_F35
F36  F:IO_F36
F37  F:IO_F37
F38  GND:GND  pwr
F39  F:IO_F39
F40  F:IO_F40
F41  F:IO_F41
F42  F:IO_F42
G1  MGRX:MGTRXN1_120  pas
G2  GND:GND  pwr
G3  MGTAVCC:MGTAVCC_120  pwr
G4  MGTAVCC:MGTAVCC_120  pwr
G5  GND:GND  pwr
G6  G:IO_G6
G7  G:IO_G7
G8  G:IO_G8
G9  G:IO_G9
G10  VCCO:VCCO24  pwr
G11  G:IO_G11
G12  G:IO_G12
G13  G:IO_G13
G14  G:IO_G14
G15  GND:GND  pwr
G16  G:IO_G16
G17  G:IO_G17
G18  G:IO_G18
G19  NC:NOCONNECT121  pas
G20  VCCO:VCCO7  pwr
G21  NC:NOCONNECT122  pas
G22  NC:NOCONNECT123  pas
G23  NC:NOCONNECT124  pas
G24  NC:NOCONNECT125  pas
G25  GND:GND  pwr
G26  NC:NOCONNECT126  pas
G27  G:IO_G27
G28  G:IO_G28
G29  G:IO_G29
G30  VCCO:VCCO31  pwr
G31  G:IO_G31
G32  G:IO_G32
G33  G:IO_G33
G34  G:IO_G34
G35  GND:GND  pwr
G36  G:IO_G36
G37  G:IO_G37
G38  G:IO_G38
G39  G:IO_G39
G40  VCCO:VCCO19  pwr
G41  G:IO_G41
G42  G:IO_G42
H1  MGRX:MGTRXP1_120  pas
H2  MGTTRXN:MGTTXN1_120  pas
H3  MGTAVCCPLL:MGTAVCCPLL_120  pwr
H4  GND:GND  pwr
H5  H:IO_H5
H6  H:IO_H6
H7  VCCO:VCCO24  pwr
H8  H:IO_H8
H9  H:IO_H9
H10  H:IO_H10
H11  H:IO_H11
H12  GND:GND  pwr
H13  H:IO_H13
H14  H:IO_H14
H15  H:IO_H15
H16  H:IO_H16
H17  VCCO:VCCO7  pwr
H18  H:IO_H18
H19  NC:NOCONNECT127  pas
H20  NC:NOCONNECT128  pas
H21  NC:NOCONNECT129  pas
H22  GND:GND  pwr
H23  NC:NOCONNECT130  pas
H24  NC:NOCONNECT131  pas
H25  NC:NOCONNECT132  pas
H26  H:IO_H26
H27  VCCO:VCCO3  pwr
H28  H:IO_H28
H29  H:IO_H29
H30  H:IO_H30
H31  H:IO_H31
H32  GND:GND  pwr
H33  H:IO_H33
H34  H:IO_H34
H35  H:IO_H35
H36  H:IO_H36
H37  VCCO:VCCO23  pwr
H38  H:IO_H38
H39  H:IO_H39
H40  H:IO_H40
H41  H:IO_H41
H42  GND:GND  pwr
J2  MGTTRXN:MGTTXP1_120  pas
J3  MGTAVTTRX:MGTAVTTTX_1202  pas
J4  GND:GND  pwr
J5  J:IO_J5
J6  J:IO_J6
J7  J:IO_J7
J8  J:IO_J8
J9  GND:GND  pwr
J10  J:IO_J10
J11  J:IO_J11
J12  J:IO_J12
J13  J:IO_J13
J14  VCCO:VCCO1  pwr
J15  J:IO_J15
J16  J:IO_J16
J17  J:IO_J17
J18  J:IO_J18
J19  GND:GND  pwr
J20  NC:NOCONNECT133  pas
J21  NC:NOCONNECT134  pas
J22  NC:NOCONNECT135  pas
J23  NC:NOCONNECT136  pas
J24  GND:GND  pwr
J25  J:IO_J25
J26  J:IO_J26
J27  J:IO_J27
J28  J:IO_J28
J29  GND:GND  pwr
J30  J:IO_J30
J31  J:IO_J31
J32  J:IO_J32
J33  J:IO_J33
J34  VCCO:VCCO27  pwr
J35  J:IO_J35
J36  J:IO_J36
J37  J:IO_J37
J38  J:IO_J38
J39  GND:GND  pwr
J40  J:IO_J40
J41  J:IO_J41
J42  J:IO_J42
K2  MGTTRXN:MGTTXP0_116  pas
K3  MGTAVTTRX:MGTAVTTTX_1161  pas
K4  K:IO_K4
K5  K:IO_K5
K6  GND:GND  pwr
K7  K:IO_K7
K8  K:IO_K8
K9  K:IO_K9
K10  K:IO_K10
K11  GND:GND  pwr
K12  K:IO_K12
K13  K:IO_K13
K14  K:IO_K14
K15  K:IO_K15
K16  GND:GND  pwr
K17  K:IO_K17
K18  K:IO_K18
K19  K:IO_K19
K20  NC:NOCONNECT137  pas
K21  GND:GND  pwr
K22  NC:NOCONNECT138  pas
K23  NC:NOCONNECT139  pas
K24  K:IO_K24
K25  K:IO_K25
K26  GND:GND  pwr
K27  K:IO_K27
K28  K:IO_K28
K29  K:IO_K29
K30  K:IO_K30
K31  GND:GND  pwr
K32  K:IO_K32
K33  K:IO_K33
K34  K:IO_K34
K35  K:IO_K35
K36  GND:GND  pwr
K37  K:IO_K37
K38  K:IO_K38
K39  K:IO_K39
K40  K:IO_K40
K41  VCCO:VCCO19  pwr
K42  K:IO_K42
L1  MGRX:MGTRXP0_116  pas
L2  MGTTRXN:MGTTXN0_116  pas
L3  MGTAVTTRX:MGTAVTTRX_116  pas
L4  GND:GND  pwr
L5  L:IO_L5
L6  L:IO_L6
L7  L:IO_L7
L8  VCCO:VCCO20  pwr
L9  L:IO_L9
L10  L:IO_L10
L11  L:IO_L11
L12  L:IO_L12
L13  GND:GND  pwr
L14  L:IO_L14
L15  L:IO_L15
L16  L:IO_L16
L17  L:IO_L17
L18  GND:GND  pwr
L19  L:IO_L19
L20  L:IO_L20
L21  NC:NOCONNECT140  pas
L22  NC:NOCONNECT141  pas
L23  GND:GND  pwr
L24  L:IO_L24
L25  L:IO_L25
L26  L:IO_L26
L27  L:IO_L27
L28  GND:GND  pwr
L29  L:IO_L29
L30  L:IO_L30
L31  L:IO_L31
L32  L:IO_L32
L33  GND:GND  pwr
L34  L:IO_L34
L35  L:IO_L35
L36  L:IO_L36
L37  L:IO_L37
L38  VCCO:VCCO19  pwr
L39  L:IO_L39
L40  L:IO_L40
L41  L:IO_L41
L42  L:IO_L42
M1  MGRX:MGTRXN0_116  pas
M2  GND:GND  pwr
M3  MGREFCLKN:MGTREFCLKN_116  pas
M4  MGREFCLKN:MGTREFCLKP_116  pas
M5  GND:GND  pwr
M6  M:IO_M6
M7  M:IO_M7
M8  M:IO_M8
M9  M:IO_M9
M10  GND:GND  pwr
M11  M:IO_M11
M12  M:IO_M12
M13  M:IO_M13
M14  M:IO_M14
M15  GND:GND  pwr
M16  M:IO_M16
M17  M:IO_M17
M18  M:IO_M18
M19  M:IO_M19
M20  GND:GND  pwr
M21  NC:NOCONNECT142  pas
M22  NC:NOCONNECT143  pas
M23  NC:NOCONNECT144  pas
M24  M:IO_M24
M25  GND:GND  pwr
M26  M:IO_M26
M27  M:IO_M27
M28  M:IO_M28
M29  M:IO_M29
M30  GND:GND  pwr
M31  M:IO_M31
M32  M:IO_M32
M33  M:IO_M33
M34  M:IO_M34
M35  GND:GND  pwr
M36  M:IO_M36
M37  M:IO_M37
M38  M:IO_M38
M39  M:IO_M39
M40  GND:GND  pwr
M41  M:IO_M41
M42  M:IO_M42
N1  MGRX:MGTRXN1_116  pas
N2  GND:GND  pwr
N3  MGTAVCC:MGTAVCC_116  pwr
N4  MGTAVCC:MGTAVCC_116  pwr
N5  N:IO_N5
N6  N:IO_N6
N7  GND:GND  pwr
N8  N:IO_N8
N9  N:IO_N9
N10  N:IO_N10
N11  N:IO_N11
N12  GND:GND  pwr
N13  N:IO_N13
N14  N:IO_N14
N15  N:IO_N15
N16  N:IO_N16
N17  GND:GND  pwr
N18  N:IO_N18
N19  N:IO_N19
N20  N:IO_N20
N21  NC:NOCONNECT145  pas
N22  NC:NOCONNECT146  pas
N23  NC:NOCONNECT147  pas
N24  NC:NOCONNECT148  pas
N25  N:IO_N25
N26  N:IO_N26
N27  GND:GND  pwr
N28  N:IO_N28
N29  N:IO_N29
N30  N:IO_N30
N31  N:IO_N31
N32  GND:GND  pwr
N33  N:IO_N33
N34  N:IO_N34
N35  N:IO_N35
N36  N:IO_N36
N37  GND:GND  pwr
N38  N:IO_N38
N39  N:IO_N39
N40  N:IO_N40
N41  N:IO_N41
N42  GND:GND  pwr
P1  MGRX:MGTRXP1_116  pas
P2  MGTTRXN:MGTTXN1_116  pas
P3  MGTAVCCPLL:MGTAVCCPLL_116  pwr
P4  GND:GND  pwr
P5  P:IO_P5
P6  P:IO_P6
P7  P:IO_P7
P8  P:IO_P8
P9  VCCO:VCCO20  pwr
P10  P:IO_P10
P11  P:IO_P11
P12  P:IO_P12
P13  P:IO_P13
P14  GND:GND  pwr
P15  A:HSWAP_EN_P15  in
P16  GND:GND  pwr
P17  P:IO_P17
P18  P:IO_P18
P19  GND:GND  pwr
P20  P:IO_P20
P21  VCCINT:VCCINT  pwr
P22  GND:GND  pwr
P23  VCCINT:VCCINT  pwr
P24  GND:GND  pwr
P25  P:IO_P25
P26  P:IO_P26
P27  P:IO_P27
P28  P:IO_P28
P29  GND:GND  pwr
P30  A:VBATT_P30  pas
P31  P:IO_P31
P32  P:IO_P32
P33  P:IO_P33
P34  GND:GND  pwr
P35  P:IO_P35
P36  P:IO_P36
P37  P:IO_P37
P38  P:IO_P38
P39  VCCO:VCCO15  pwr
P40  P:IO_P40
P41  P:IO_P41
P42  P:IO_P42
R2  MGTTRXN:MGTTXP1_116  pas
R3  MGTAVTTRX:MGTAVTTTX_1162  pas
R4  R:IO_R4
R5  R:IO_R5
R6  VCCO:VCCO20  pwr
R7  R:IO_R7
R8  R:IO_R8
R9  R:IO_R9
R10  R:IO_R10
R11  GND:GND  pwr
R12  VCCAUX:VCCAUX  pwr
R13  GND:GND  pwr
R14  A:DONE_R14
R15  A:D_IN_R15  in
R16  VCCINT:VCCINT  pwr
R17  GND:GND  pwr
R18  VCCINT:VCCINT  pwr
R19  GND:GND  pwr
R20  VCCINT:VCCINT  pwr
R21  GND:GND  pwr
R22  VCCINT:VCCINT  pwr
R23  GND:GND  pwr
R24  VCCINT:VCCINT  pwr
R25  GND:GND  pwr
R26  VCCINT:VCCINT  pwr
R27  GND:GND  pwr
R28  VCCINT:VCCINT  pwr
R29  A:PROG_B  in
R30  A:RDWR_B_R30  in
R31  GND:GND  pwr
R32  R:IO_R32
R33  R:IO_R33
R34  R:IO_R34
R35  R:IO_R35
R36  VCCO:VCCO15  pwr
R37  R:IO_R37
R38  R:IO_R38
R39  R:IO_R39
R40  R:IO_R40
R41  GND:GND  pwr
R42  R:IO_R42
T2  MGTTRXN:MGTTXP0_112  pas
T3  MGTAVTTRX:MGTAVTTTX_1121  pas
T4  T:IO_T4
T5  T:IO_T5
T6  T:IO_T6
T7  T:IO_T7
T8  GND:GND  pwr
T9  T:IO_T9
T10  T:IO_T10
T11  T:IO_T11
T12  GND:GND  pwr
T13  VCCAUX:VCCAUX  pwr
T14  A:INIT_B_T14
T15  VCCINT:VCCINT  pwr
T16  GND:GND  pwr
T17  VCCINT:VCCINT  pwr
T18  GND:GND  pwr
T19  VCCINT:VCCINT  pwr
T20  GND:GND  pwr
T21  VCCINT:VCCINT  pwr
T22  GND:GND  pwr
T23  VCCINT:VCCINT  pwr
T24  GND:GND  pwr
T25  VCCINT:VCCINT  pwr
T26  GND:GND  pwr
T27  VCCINT:VCCINT  pwr
T28  GND:GND  pwr
T29  VCCAUX:VCCAUX  pwr
T30  A:CS_B_T30  in
T31  T:IO_T31
T32  T:IO_T32
T33  GND:GND  pwr
T34  T:IO_T34
T35  T:IO_T35
T36  T:IO_T36
T37  T:IO_T37
T38  GND:GND  pwr
T39  T:IO_T39
T40  T:IO_T40
T41  T:IO_T41
T42  T:IO_T42
U1  MGRX:MGTRXP0_112  pas
U2  MGTTRXN:MGTTXN0_112  pas
U3  MGTAVTTRX:MGTAVTTRX_112  pas
U4  GND:GND  pwr
U5  GND:GND  pwr
U6  U:IO_U6
U7  U:IO_U7
U8  U:IO_U8
U9  U:IO_U9
U10  VCCO:VCCO12  pwr
U11  U:IO_U11
U12  VCCAUX:VCCAUX  pwr
U13  GND:GND  pwr
U14  VCCINT:VCCINT  pwr
U15  GND:GND  pwr
U16  VCCINT:VCCINT  pwr
U17  GND:GND  pwr
U18  VCCINT:VCCINT  pwr
U19  GND:GND  pwr
U20  VCCINT:VCCINT  pwr
U21  GND:GND  pwr
U22  VCCINT:VCCINT  pwr
U23  GND:GND  pwr
U24  VCCINT:VCCINT  pwr
U25  GND:GND  pwr
U26  VCCINT:VCCINT  pwr
U27  GND:GND  pwr
U28  VCCINT:VCCINT  pwr
U29  GND:GND  pwr
U30  VCCAUX:VCCAUX  pwr
U31  U:IO_U31
U32  U:IO_U32
U33  U:IO_U33
U34  U:IO_U34
U35  GND:GND  pwr
U36  U:IO_U36
U37  U:IO_U37
U38  U:IO_U38
U39  U:IO_U39
U40  VCCO:VCCO15  pwr
U41  U:IO_U41
U42  U:IO_U42
V1  MGRX:MGTRXN0_112  pas
V2  GND:GND  pwr
V3  MGREFCLKN:MGTREFCLKN_112  pas
V4  MGREFCLKN:MGTREFCLKP_112  pas
V5  V:IO_V5
V6  V:IO_V6
V7  VCCO:VCCO12  pwr
V8  V:IO_V8
V9  V:IO_V9
V10  V:IO_V10
V11  V:IO_V11
V12  GND:GND  pwr
V13  VCCINT:VCCINT  pwr
V14  GND:GND  pwr
V15  VCCINT:VCCINT  pwr
V16  GND:GND  pwr
V17  VCCINT:VCCINT  pwr
V18  GND:GND  pwr
V19  VCCINT:VCCINT  pwr
V20  GND:GND  pwr
V21  VCCINT:VCCINT  pwr
V22  GND:GND  pwr
V23  VCCINT:VCCINT  pwr
V24  GND:GND  pwr
V25  VCCINT:VCCINT  pwr
V26  GND:GND  pwr
V27  VCCINT:VCCINT  pwr
V28  GND:GND  pwr
V29  VCCINT:VCCINT  pwr
V30  GND:GND  pwr
V31  A:VFS_V31  pas
V32  GND:GND  pwr
V33  V:IO_V33
V34  V:IO_V34
V35  V:IO_V35
V36  V:IO_V36
V37  VCCO:VCCO11  pwr
V38  V:IO_V38
V39  V:IO_V39
V40  V:IO_V40
V41  V:IO_V41
V42  GND:GND  pwr
W1  MGRX:MGTRXN1_112  pas
W2  GND:GND  pwr
W3  MGTAVCC:MGTAVCC_112  pwr
W4  MGTAVCC:MGTAVCC_112  pwr
W5  W:IO_W5
W6  W:IO_W6
W7  W:IO_W7
W8  W:IO_W8
W9  GND:GND  pwr
W10  W:IO_W10
W11  W:IO_W11
W12  VCCAUX:VCCAUX  pwr
W13  GND:GND  pwr
W14  VCCINT:VCCINT  pwr
W15  GND:GND  pwr
W16  VCCINT:VCCINT  pwr
W17  GND:GND  pwr
W18  VCCINT:VCCINT  pwr
W19  GND:GND  pwr
W20  VCCINT:VCCINT  pwr
W21  GND:GND  pwr
W22  VCCINT:VCCINT  pwr
W23  GND:GND  pwr
W24  VCCINT:VCCINT  pwr
W25  GND:GND  pwr
W26  VCCINT:VCCINT  pwr
W27  GND:GND  pwr
W28  VCCINT:VCCINT  pwr
W29  GND:GND  pwr
W30  VCCAUX:VCCAUX  pwr
W31  GND:GND  pwr
W32  W:IO_W32
W33  W:IO_W33
W34  GND:GND  pwr
W35  W:IO_W35
W36  W:IO_W36
W37  W:IO_W37
W38  W:IO_W38
W39  GND:GND  pwr
W40  W:IO_W40
W41  W:IO_W41
W42  W:IO_W42
Y1  MGRX:MGTRXP1_112  pas
Y2  MGTTRXN:MGTTXN1_112  pas
Y3  MGTAVCCPLL:MGTAVCCPLL_112  pwr
Y4  GND:GND  pwr
Y5  NC:NOCONNECT149  pas
Y6  GND:GND  pwr
Y7  Y:IO_Y7
Y8  Y:IO_Y8
Y9  Y:IO_Y9
Y10  Y:IO_Y10
Y11  GND:GND  pwr
Y12  GND:GND  pwr
Y13  VCCINT:VCCINT  pwr
Y14  GND:GND  pwr
Y15  VCCINT:VCCINT  pwr
Y16  GND:GND  pwr
Y17  VCCINT:VCCINT  pwr
Y18  GND:GND  pwr
Y19  VCCINT:VCCINT  pwr
Y20  GND:GND  pwr
Y21  A:AVSS_Y21  pwr
Y22  A:AVDD_Y22  pwr
Y23  VCCINT:VCCINT  pwr
Y24  GND:GND  pwr
Y25  VCCINT:VCCINT  pwr
Y26  GND:GND  pwr
Y27  VCCINT:VCCINT  pwr
Y28  GND:GND  pwr
Y29  VCCINT:VCCINT  pwr
Y30  GND:GND  pwr
Y31  VCCAUX:VCCAUX  pwr
Y32  Y:IO_Y32
Y33  Y:IO_Y33
Y34  Y:IO_Y34
Y35  Y:IO_Y35
Y36  GND:GND  pwr
Y37  Y:IO_Y37
Y38  Y:IO_Y38
Y39  Y:IO_Y39
Y40  Y:IO_Y40
Y41  VCCO:VCCO11  pwr
Y42  Y:IO_Y42

## Footprint FF1738 (pad centres in mm)
xc5vlx110t_ff1738 edit this description Auto generated by make-symbol-device-package-bsdl.ulp Rev. 19 Source: xc5vlx110t_ff1738.bsd http://www.xilinx.com/support/documentation/package_specs/ff1738.pdf
smd 0.6 x 0.6: A2 -19.5,20.5; A3 -18.5,20.5; A4 -17.5,20.5; A5 -16.5,20.5; A8 -13.5,20.5; A9 -12.5,20.5; A10 -11.5,20.5; A11 -10.5,20.5; A14 -7.5,20.5; A15 -6.5,20.5; A16 -5.5,20.5; A17 -4.5,20.5; A19 -2.5,20.5; A20 -1.5,20.5; A21 -0.5,20.5; A22 0.5,20.5; A23 1.5,20.5; A24 2.5,20.5; A25 3.5,20.5; A26 4.5,20.5; A27 5.5,20.5; A28 6.5,20.5; A29 7.5,20.5; A30 8.5,20.5; A31 9.5,20.5; A32 10.5,20.5; A33 11.5,20.5; A34 12.5,20.5; A35 13.5,20.5; A36 14.5,20.5; A37 15.5,20.5; A38 16.5,20.5; A39 17.5,20.5; A40 18.5,20.5; A41 19.5,20.5; AA2 -19.5,0.5; AA3 -18.5,0.5; AA4 -17.5,0.5; AA5 -16.5,0.5; AA6 -15.5,0.5; AA7 -14.5,0.5; AA8 -13.5,0.5; AA9 -12.5,0.5; AA10 -11.5,0.5; AA11 -10.5,0.5; AA12 -9.5,0.5; AA13 -8.5,0.5; AA14 -7.5,0.5; AA15 -6.5,0.5; AA16 -5.5,0.5; AA17 -4.5,0.5; AA18 -3.5,0.5; AA19 -2.5,0.5; AA20 -1.5,0.5; AA21 -0.5,0.5; AA22 0.5,0.5; AA23 1.5,0.5; AA24 2.5,0.5; AA25 3.5,0.5; AA26 4.5,0.5; AA27 5.5,0.5; AA28 6.5,0.5; AA29 7.5,0.5; AA30 8.5,0.5; AA31 9.5,0.5; AA32 10.5,0.5; AA33 11.5,0.5; AA34 12.5,0.5; AA35 13.5,0.5; AA36 14.5,0.5; AA37 15.5,0.5; AA38 16.5,0.5; AA39 17.5,0.5; AA40 18.5,0.5; AA41 19.5,0.5; AA42 20.5,0.5; AB2 -19.5,-0.5; AB3 -18.5,-0.5; AB4 -17.5,-0.5; AB5 -16.5,-0.5; AB6 -15.5,-0.5; AB7 -14.5,-0.5; AB8 -13.5,-0.5; AB9 -12.5,-0.5; AB10 -11.5,-0.5; AB11 -10.5,-0.5; AB12 -9.5,-0.5; AB13 -8.5,-0.5; AB14 -7.5,-0.5; AB15 -6.5,-0.5; AB16 -5.5,-0.5; AB17 -4.5,-0.5; AB18 -3.5,-0.5; AB19 -2.5,-0.5; AB20 -1.5,-0.5; AB21 -0.5,-0.5; AB22 0.5,-0.5; AB23 1.5,-0.5; AB24 2.5,-0.5; AB25 3.5,-0.5; AB26 4.5,-0.5; AB27 5.5,-0.5; AB28 6.5,-0.5; AB29 7.5,-0.5; AB30 8.5,-0.5; AB31 9.5,-0.5; AB32 10.5,-0.5; AB33 11.5,-0.5; AB34 12.5,-0.5; AB35 13.5,-0.5; AB36 14.5,-0.5; AB37 15.5,-0.5; AB38 16.5,-0.5; AB39 17.5,-0.5; AB40 18.5,-0.5; AB41 19.5,-0.5; AB42 20.5,-0.5; AC1 -20.5,-1.5; AC2 -19.5,-1.5; AC3 -18.5,-1.5; AC4 -17.5,-1.5; AC5 -16.5,-1.5; AC6 -15.5,-1.5; AC7 -14.5,-1.5; AC8 -13.5,-1.5; AC9 -12.5,-1.5; AC10 -11.5,-1.5; AC11 -10.5,-1.5; AC12 -9.5,-1.5; AC13 -8.5,-1.5; AC14 -7.5,-1.5; AC15 -6.5,-1.5; AC16 -5.5,-1.5; AC17 -4.5,-1.5; AC18 -3.5,-1.5; AC19 -2.5,-1.5; AC20 -1.5,-1.5; AC21 -0.5,-1.5; AC22 0.5,-1.5; AC23 1.5,-1.5; AC24 2.5,-1.5; AC25 3.5,-1.5; AC26 4.5,-1.5; AC27 5.5,-1.5; AC28 6.5,-1.5; AC29 7.5,-1.5; AC30 8.5,-1.5; AC31 9.5,-1.5; AC32 10.5,-1.5; AC33 11.5,-1.5; AC34 12.5,-1.5; AC35 13.5,-1.5; AC36 14.5,-1.5; AC37 15.5,-1.5; AC38 16.5,-1.5; AC39 17.5,-1.5; AC40 18.5,-1.5; AC41 19.5,-1.5; AC42 20.5,-1.5; AD1 -20.5,-2.5; AD2 -19.5,-2.5; AD3 -18.5,-2.5; AD4 -17.5,-2.5; AD5 -16.5,-2.5; AD6 -15.5,-2.5; AD7 -14.5,-2.5; AD8 -13.5,-2.5; AD9 -12.5,-2.5; AD10 -11.5,-2.5; AD11 -10.5,-2.5; AD12 -9.5,-2.5; AD13 -8.5,-2.5; AD14 -7.5,-2.5; AD15 -6.5,-2.5; AD16 -5.5,-2.5; AD17 -4.5,-2.5; AD18 -3.5,-2.5; AD19 -2.5,-2.5; AD20 -1.5,-2.5; AD21 -0.5,-2.5; AD22 0.5,-2.5; AD23 1.5,-2.5; AD24 2.5,-2.5; AD25 3.5,-2.5; AD26 4.5,-2.5; AD27 5.5,-2.5; AD28 6.5,-2.5; AD29 7.5,-2.5; AD30 8.5,-2.5; AD31 9.5,-2.5; AD32 10.5,-2.5; AD33 11.5,-2.5; AD34 12.5,-2.5; AD35 13.5,-2.5; AD36 14.5,-2.5; AD37 15.5,-2.5; AD38 16.5,-2.5; AD39 17.5,-2.5; AD40 18.5,-2.5; AD41 19.5,-2.5; AD42 20.5,-2.5; AE1 -20.5,-3.5; AE2 -19.5,-3.5; AE3 -18.5,-3.5; AE4 -17.5,-3.5; AE5 -16.5,-3.5; AE6 -15.5,-3.5; AE7 -14.5,-3.5; AE8 -13.5,-3.5; AE9 -12.5,-3.5; AE10 -11.5,-3.5; AE11 -10.5,-3.5; AE12 -9.5,-3.5; AE13 -8.5,-3.5; AE14 -7.5,-3.5; AE15 -6.5,-3.5; AE16 -5.5,-3.5; AE17 -4.5,-3.5; AE18 -3.5,-3.5; AE19 -2.5,-3.5; AE20 -1.5,-3.5; AE21 -0.5,-3.5; AE22 0.5,-3.5; AE23 1.5,-3.5; AE24 2.5,-3.5; AE25 3.5,-3.5; AE26 4.5,-3.5; AE27 5.5,-3.5; AE28 6.5,-3.5; AE29 7.5,-3.5; AE30 8.5,-3.5; AE31 9.5,-3.5; AE32 10.5,-3.5; AE33 11.5,-3.5; AE34 12.5,-3.5; AE35 13.5,-3.5; AE36 14.5,-3.5; AE37 15.5,-3.5; AE38 16.5,-3.5; AE39 17.5,-3.5; AE40 18.5,-3.5; AE41 19.5,-3.5; AE42 20.5,-3.5; AF1 -20.5,-4.5; AF2 -19.5,-4.5; AF3 -18.5,-4.5; AF4 -17.5,-4.5; AF5 -16.5,-4.5; AF6 -15.5,-4.5; AF7 -14.5,-4.5; AF8 -13.5,-4.5; AF9 -12.5,-4.5; AF10 -11.5,-4.5; AF11 -10.5,-4.5; AF12 -9.5,-4.5; AF13 -8.5,-4.5; AF14 -7.5,-4.5; AF15 -6.5,-4.5; AF16 -5.5,-4.5; AF17 -4.5,-4.5; AF18 -3.5,-4.5; AF19 -2.5,-4.5; AF20 -1.5,-4.5; AF21 -0.5,-4.5; AF22 0.5,-4.5; AF23 1.5,-4.5; AF24 2.5,-4.5; AF25 3.5,-4.5; AF26 4.5,-4.5; AF27 5.5,-4.5; AF28 6.5,-4.5; AF29 7.5,-4.5; AF30 8.5,-4.5; AF31 9.5,-4.5; AF32 10.5,-4.5; AF33 11.5,-4.5; AF34 12.5,-4.5; AF35 13.5,-4.5; AF36 14.5,-4.5; AF37 15.5,-4.5; AF38 16.5,-4.5; AF39 17.5,-4.5; AF40 18.5,-4.5; AF41 19.5,-4.5; AF42 20.5,-4.5; AG2 -19.5,-5.5; AG3 -18.5,-5.5; AG4 -17.5,-5.5; AG5 -16.5,-5.5; AG6 -15.5,-5.5; AG7 -14.5,-5.5; AG8 -13.5,-5.5; AG9 -12.5,-5.5; AG10 -11.5,-5.5; AG11 -10.5,-5.5; AG12 -9.5,-5.5; AG13 -8.5,-5.5; AG14 -7.5,-5.5; AG15 -6.5,-5.5; AG16 -5.5,-5.5; AG17 -4.5,-5.5; AG18 -3.5,-5.5; AG19 -2.5,-5.5; AG20 -1.5,-5.5; AG21 -0.5,-5.5; AG22 0.5,-5.5; AG23 1.5,-5.5; AG24 2.5,-5.5; AG25 3.5,-5.5; AG26 4.5,-5.5; AG27 5.5,-5.5; AG28 6.5,-5.5; AG29 7.5,-5.5; AG30 8.5,-5.5; AG31 9.5,-5.5; AG32 10.5,-5.5; AG33 11.5,-5.5; AG34 12.5,-5.5; AG35 13.5,-5.5; AG36 14.5,-5.5; AG37 15.5,-5.5; AG38 16.5,-5.5; AG39 17.5,-5.5; AG40 18.5,-5.5; AG41 19.5,-5.5; AG42 20.5,-5.5; AH2 -19.5,-6.5; AH3 -18.5,-6.5; AH4 -17.5,-6.5; AH5 -16.5,-6.5; AH6 -15.5,-6.5; AH7 -14.5,-6.5; AH8 -13.5,-6.5; AH9 -12.5,-6.5; AH10 -11.5,-6.5; AH11 -10.5,-6.5; AH12 -9.5,-6.5; AH13 -8.5,-6.5; AH14 -7.5,-6.5; AH15 -6.5,-6.5; AH16 -5.5,-6.5; AH17 -4.5,-6.5; AH18 -3.5,-6.5; AH19 -2.5,-6.5; AH20 -1.5,-6.5; AH21 -0.5,-6.5; AH22 0.5,-6.5; AH23 1.5,-6.5; AH24 2.5,-6.5; AH25 3.5,-6.5; AH26 4.5,-6.5; AH27 5.5,-6.5; AH28 6.5,-6.5; AH29 7.5,-6.5; AH30 8.5,-6.5; AH31 9.5,-6.5; AH32 10.5,-6.5; AH33 11.5,-6.5; AH34 12.5,-6.5; AH35 13.5,-6.5; AH36 14.5,-6.5; AH37 15.5,-6.5; AH38 16.5,-6.5; AH39 17.5,-6.5; AH40 18.5,-6.5; AH41 19.5,-6.5; AH42 20.5,-6.5; AJ1 -20.5,-7.5; AJ2 -19.5,-7.5; AJ3 -18.5,-7.5; AJ4 -17.5,-7.5; AJ5 -16.5,-7.5; AJ6 -15.5,-7.5; AJ7 -14.5,-7.5; AJ8 -13.5,-7.5; AJ9 -12.5,-7.5; AJ10 -11.5,-7.5; AJ11 -10.5,-7.5; AJ12 -9.5,-7.5; AJ13 -8.5,-7.5; AJ14 -7.5,-7.5; AJ15 -6.5,-7.5; AJ16 -5.5,-7.5; AJ17 -4.5,-7.5; AJ18 -3.5,-7.5; AJ19 -2.5,-7.5; AJ20 -1.5,-7.5; AJ21 -0.5,-7.5; AJ22 0.5,-7.5; AJ23 1.5,-7.5; AJ24 2.5,-7.5; AJ25 3.5,-7.5; AJ26 4.5,-7.5; AJ27 5.5,-7.5; AJ28 6.5,-7.5; AJ29 7.5,-7.5; AJ30 8.5,-7.5; AJ31 9.5,-7.5; AJ32 10.5,-7.5; AJ33 11.5,-7.5; AJ34 12.5,-7.5; AJ35 13.5,-7.5; AJ36 14.5,-7.5; AJ37 15.5,-7.5; AJ38 16.5,-7.5; AJ39 17.5,-7.5; AJ40 18.5,-7.5; AJ41 19.5,-7.5; AJ42 20.5,-7.5; AK1 -20.5,-8.5; AK2 -19.5,-8.5; AK3 -18.5,-8.5; AK4 -17.5,-8.5; AK5 -16.5,-8.5; AK6 -15.5,-8.5; AK7 -14.5,-8.5; AK8 -13.5,-8.5; AK9 -12.5,-8.5; AK10 -11.5,-8.5; AK11 -10.5,-8.5; AK12 -9.5,-8.5; AK13 -8.5,-8.5; AK14 -7.5,-8.5; AK15 -6.5,-8.5; AK16 -5.5,-8.5; AK17 -4.5,-8.5; AK18 -3.5,-8.5; AK19 -2.5,-8.5; AK20 -1.5,-8.5; AK21 -0.5,-8.5; AK22 0.5,-8.5; AK23 1.5,-8.5; AK24 2.5,-8.5; AK25 3.5,-8.5; AK26 4.5,-8.5; AK27 5.5,-8.5; AK28 6.5,-8.5; AK29 7.5,-8.5; AK30 8.5,-8.5; AK31 9.5,-8.5; AK32 10.5,-8.5; AK33 11.5,-8.5; AK34 12.5,-8.5; AK35 13.5,-8.5; AK36 14.5,-8.5; AK37 15.5,-8.5; AK38 16.5,-8.5; AK39 17.5,-8.5; AK40 18.5,-8.5; AK41 19.5,-8.5; AK42 20.5,-8.5; AL1 -20.5,-9.5; AL2 -19.5,-9.5; AL3 -18.5,-9.5; AL4 -17.5,-9.5; AL5 -16.5,-9.5; AL6 -15.5,-9.5; AL7 -14.5,-9.5; AL8 -13.5,-9.5; AL9 -12.5,-9.5; AL10 -11.5,-9.5; AL11 -10.5,-9.5; AL12 -9.5,-9.5; AL13 -8.5,-9.5; AL14 -7.5,-9.5; AL15 -6.5,-9.5; AL16 -5.5,-9.5; AL17 -4.5,-9.5; AL18 -3.5,-9.5; AL19 -2.5,-9.5; AL20 -1.5,-9.5; AL21 -0.5,-9.5; AL22 0.5,-9.5; AL23 1.5,-9.5; AL24 2.5,-9.5; AL25 3.5,-9.5; AL26 4.5,-9.5; AL27 5.5,-9.5; AL28 6.5,-9.5; AL29 7.5,-9.5; AL30 8.5,-9.5; AL31 9.5,-9.5; AL32 10.5,-9.5; AL33 11.5,-9.5; AL34 12.5,-9.5; AL35 13.5,-9.5; AL36 14.5,-9.5; AL37 15.5,-9.5; AL38 16.5,-9.5; AL39 17.5,-9.5; AL40 18.5,-9.5; AL41 19.5,-9.5; AL42 20.5,-9.5; AM1 -20.5,-10.5; AM2 -19.5,-10.5; AM3 -18.5,-10.5; AM4 -17.5,-10.5; AM5 -16.5,-10.5; AM6 -15.5,-10.5; AM7 -14.5,-10.5; AM8 -13.5,-10.5; AM9 -12.5,-10.5; AM10 -11.5,-10.5; AM11 -10.5,-10.5; AM12 -9.5,-10.5; AM13 -8.5,-10.5; AM14 -7.5,-10.5; AM15 -6.5,-10.5; AM16 -5.5,-10.5; AM17 -4.5,-10.5; AM18 -3.5,-10.5; AM19 -2.5,-10.5; AM20 -1.5,-10.5; AM21 -0.5,-10.5; AM22 0.5,-10.5; AM23 1.5,-10.5; AM24 2.5,-10.5; AM25 3.5,-10.5; AM26 4.5,-10.5; AM27 5.5,-10.5; AM28 6.5,-10.5; AM29 7.5,-10.5; AM30 8.5,-10.5; AM31 9.5,-10.5; AM32 10.5,-10.5; AM33 11.5,-10.5; AM34 12.5,-10.5; AM35 13.5,-10.5; AM36 14.5,-10.5; AM37 15.5,-10.5; AM38 16.5,-10.5; AM39 17.5,-10.5; AM40 18.5,-10.5; AM41 19.5,-10.5; AM42 20.5,-10.5; AN2 -19.5,-11.5; AN3 -18.5,-11.5; AN4 -17.5,-11.5; AN5 -16.5,-11.5; AN6 -15.5,-11.5; AN7 -14.5,-11.5; AN8 -13.5,-11.5; AN9 -12.5,-11.5; AN10 -11.5,-11.5; AN11 -10.5,-11.5; AN12 -9.5,-11.5; AN13 -8.5,-11.5; AN14 -7.5,-11.5; AN15 -6.5,-11.5; AN16 -5.5,-11.5; AN17 -4.5,-11.5; AN18 -3.5,-11.5; AN19 -2.5,-11.5; AN20 -1.5,-11.5; AN21 -0.5,-11.5; AN22 0.5,-11.5; AN23 1.5,-11.5; AN24 2.5,-11.5; AN25 3.5,-11.5; AN26 4.5,-11.5; AN27 5.5,-11.5; AN28 6.5,-11.5; AN29 7.5,-11.5; AN30 8.5,-11.5; AN31 9.5,-11.5; AN32 10.5,-11.5; AN33 11.5,-11.5; AN34 12.5,-11.5; AN35 13.5,-11.5; AN36 14.5,-11.5; AN37 15.5,-11.5; AN38 16.5,-11.5; AN39 17.5,-11.5; AN40 18.5,-11.5; AN41 19.5,-11.5; AN42 20.5,-11.5; AP2 -19.5,-12.5; AP3 -18.5,-12.5; AP4 -17.5,-12.5; AP5 -16.5,-12.5; AP6 -15.5,-12.5; AP7 -14.5,-12.5; AP8 -13.5,-12.5; AP9 -12.5,-12.5; AP10 -11.5,-12.5; AP11 -10.5,-12.5; AP12 -9.5,-12.5; AP13 -8.5,-12.5; AP14 -7.5,-12.5; AP15 -6.5,-12.5; AP16 -5.5,-12.5; AP17 -4.5,-12.5; AP18 -3.5,-12.5; AP19 -2.5,-12.5; AP20 -1.5,-12.5; AP21 -0.5,-12.5; AP22 0.5,-12.5; AP23 1.5,-12.5; AP24 2.5,-12.5; AP25 3.5,-12.5; AP26 4.5,-12.5; AP27 5.5,-12.5; AP28 6.5,-12.5; AP29 7.5,-12.5; AP30 8.5,-12.5; AP31 9.5,-12.5; AP32 10.5,-12.5; AP33 11.5,-12.5; AP34 12.5,-12.5; AP35 13.5,-12.5; AP36 14.5,-12.5; AP37 15.5,-12.5; AP38 16.5,-12.5; AP39 17.5,-12.5; AP40 18.5,-12.5; AP41 19.5,-12.5; AP42 20.5,-12.5; AR1 -20.5,-13.5; AR2 -19.5,-13.5; AR3 -18.5,-13.5; AR4 -17.5,-13.5; AR5 -16.5,-13.5; AR6 -15.5,-13.5; AR7 -14.5,-13.5; AR8 -13.5,-13.5; AR9 -12.5,-13.5; AR10 -11.5,-13.5; AR11 -10.5,-13.5; AR12 -9.5,-13.5; AR13 -8.5,-13.5; AR14 -7.5,-13.5; AR15 -6.5,-13.5; AR16 -5.5,-13.5; AR17 -4.5,-13.5; AR18 -3.5,-13.5; AR19 -2.5,-13.5; AR20 -1.5,-13.5; AR21 -0.5,-13.5; AR22 0.5,-13.5; AR23 1.5,-13.5; AR24 2.5,-13.5; AR25 3.5,-13.5; AR26 4.5,-13.5; AR27 5.5,-13.5; AR28 6.5,-13.5; AR29 7.5,-13.5; AR30 8.5,-13.5; AR31 9.5,-13.5; AR32 10.5,-13.5; AR33 11.5,-13.5; AR34 12.5,-13.5; AR35 13.5,-13.5; AR36 14.5,-13.5; AR37 15.5,-13.5; AR38 16.5,-13.5; AR39 17.5,-13.5; AR40 18.5,-13.5; AR41 19.5,-13.5; AR42 20.5,-13.5; AT1 -20.5,-14.5; AT2 -19.5,-14.5; AT3 -18.5,-14.5; AT4 -17.5,-14.5; AT5 -16.5,-14.5; AT6 -15.5,-14.5; AT7 -14.5,-14.5; AT8 -13.5,-14.5; AT9 -12.5,-14.5; AT10 -11.5,-14.5; AT11 -10.5,-14.5; AT12 -9.5,-14.5; AT13 -8.5,-14.5; AT14 -7.5,-14.5; AT15 -6.5,-14.5; AT16 -5.5,-14.5; AT17 -4.5,-14.5; AT18 -3.5,-14.5; AT19 -2.5,-14.5; AT20 -1.5,-14.5; AT21 -0.5,-14.5; AT22 0.5,-14.5; AT23 1.5,-14.5; AT24 2.5,-14.5; AT25 3.5,-14.5; AT26 4.5,-14.5; AT27 5.5,-14.5; AT28 6.5,-14.5; AT29 7.5,-14.5; AT30 8.5,-14.5; AT31 9.5,-14.5; AT32 10.5,-14.5; AT33 11.5,-14.5; AT34 12.5,-14.5; AT35 13.5,-14.5; AT36 14.5,-14.5; AT37 15.5,-14.5; AT38 16.5,-14.5; AT39 17.5,-14.5; AT40 18.5,-14.5; AT41 19.5,-14.5; AT42 20.5,-14.5; AU1 -20.5,-15.5; AU2 -19.5,-15.5; AU3 -18.5,-15.5; AU4 -17.5,-15.5; AU5 -16.5,-15.5; AU6 -15.5,-15.5; AU7 -14.5,-15.5; AU8 -13.5,-15.5; AU9 -12.5,-15.5; AU10 -11.5,-15.5; AU11 -10.5,-15.5; AU12 -9.5,-15.5; AU13 -8.5,-15.5; AU14 -7.5,-15.5; AU15 -6.5,-15.5; AU16 -5.5,-15.5; AU17 -4.5,-15.5; AU18 -3.5,-15.5; AU19 -2.5,-15.5; AU20 -1.5,-15.5; AU21 -0.5,-15.5; AU22 0.5,-15.5; AU23 1.5,-15.5; AU24 2.5,-15.5; AU25 3.5,-15.5; AU26 4.5,-15.5; AU27 5.5,-15.5; AU28 6.5,-15.5; AU29 7.5,-15.5; AU30 8.5,-15.5; AU31 9.5,-15.5; AU32 10.5,-15.5; AU33 11.5,-15.5; AU34 12.5,-15.5; AU35 13.5,-15.5; AU36 14.5,-15.5; AU37 15.5,-15.5; AU38 16.5,-15.5; AU39 17.5,-15.5; AU40 18.5,-15.5; AU41 19.5,-15.5; AU42 20.5,-15.5; AV1 -20.5,-16.5; AV2 -19.5,-16.5; AV3 -18.5,-16.5; AV4 -17.5,-16.5; AV5 -16.5,-16.5; AV6 -15.5,-16.5; AV7 -14.5,-16.5; AV8 -13.5,-16.5; AV9 -12.5,-16.5; AV10 -11.5,-16.5; AV11 -10.5,-16.5; AV12 -9.5,-16.5; AV13 -8.5,-16.5; AV14 -7.5,-16.5; AV15 -6.5,-16.5; AV16 -5.5,-16.5; AV17 -4.5,-16.5; AV18 -3.5,-16.5; AV19 -2.5,-16.5; AV20 -1.5,-16.5; AV21 -0.5,-16.5; AV22 0.5,-16.5; AV23 1.5,-16.5; AV24 2.5,-16.5; AV25 3.5,-16.5; AV26 4.5,-16.5; AV27 5.5,-16.5; AV28 6.5,-16.5; AV29 7.5,-16.5; AV30 8.5,-16.5; AV31 9.5,-16.5; AV32 10.5,-16.5; AV33 11.5,-16.5; AV34 12.5,-16.5; AV35 13.5,-16.5; AV36 14.5,-16.5; AV37 15.5,-16.5; AV38 16.5,-16.5; AV39 17.5,-16.5; AV40 18.5,-16.5; AV41 19.5,-16.5; AV42 20.5,-16.5; AW2 -19.5,-17.5; AW3 -18.5,-17.5; AW4 -17.5,-17.5; AW5 -16.5,-17.5; AW6 -15.5,-17.5; AW7 -14.5,-17.5; AW8 -13.5,-17.5; AW9 -12.5,-17.5; AW10 -11.5,-17.5; AW11 -10.5,-17.5; AW12 -9.5,-17.5; AW13 -8.5,-17.5; AW14 -7.5,-17.5; AW15 -6.5,-17.5; AW16 -5.5,-17.5; AW17 -4.5,-17.5; AW18 -3.5,-17.5; AW19 -2.5,-17.5; AW20 -1.5,-17.5; AW21 -0.5,-17.5; AW22 0.5,-17.5; AW23 1.5,-17.5; AW24 2.5,-17.5; AW25 3.5,-17.5; AW26 4.5,-17.5; AW27 5.5,-17.5; AW28 6.5,-17.5; AW29 7.5,-17.5; AW30 8.5,-17.5; AW31 9.5,-17.5; AW32 10.5,-17.5; AW33 11.5,-17.5; AW34 12.5,-17.5; AW35 13.5,-17.5; AW36 14.5,-17.5; AW37 15.5,-17.5; AW38 16.5,-17.5; AW39 17.5,-17.5; AW40 18.5,-17.5; AW41 19.5,-17.5; AW42 20.5,-17.5; AY1 -20.5,-18.5; AY2 -19.5,-18.5; AY3 -18.5,-18.5; AY4 -17.5,-18.5; AY5 -16.5,-18.5; AY6 -15.5,-18.5; AY7 -14.5,-18.5; AY8 -13.5,-18.5; AY9 -12.5,-18.5; AY10 -11.5,-18.5; AY11 -10.5,-18.5; AY12 -9.5,-18.5; AY13 -8.5,-18.5; AY14 -7.5,-18.5; AY15 -6.5,-18.5; AY16 -5.5,-18.5; AY17 -4.5,-18.5; AY18 -3.5,-18.5; AY19 -2.5,-18.5; AY20 -1.5,-18.5; AY21 -0.5,-18.5; AY22 0.5,-18.5; AY23 1.5,-18.5; AY24 2.5,-18.5; AY25 3.5,-18.5; AY26 4.5,-18.5; AY27 5.5,-18.5; AY28 6.5,-18.5; AY29 7.5,-18.5; AY30 8.5,-18.5; AY31 9.5,-18.5; AY32 10.5,-18.5; AY33 11.5,-18.5; AY34 12.5,-18.5; AY35 13.5,-18.5; AY36 14.5,-18.5; AY37 15.5,-18.5; AY38 16.5,-18.5; AY39 17.5,-18.5; AY40 18.5,-18.5; AY41 19.5,-18.5; AY42 20.5,-18.5; B1 -20.5,19.5; B2 -19.5,19.5; B3 -18.5,19.5; B4 -17.5,19.5; B5 -16.5,19.5; B6 -15.5,19.5; B7 -14.5,19.5; B8 -13.5,19.5; B9 -12.5,19.5; B10 -11.5,19.5; B11 -10.5,19.5; B12 -9.5,19.5; B13 -8.5,19.5; B14 -7.5,19.5; B15 -6.5,19.5; B16 -5.5,19.5; B17 -4.5,19.5; B18 -3.5,19.5; B19 -2.5,19.5; B20 -1.5,19.5; B21 -0.5,19.5; B22 0.5,19.5; B23 1.5,19.5; B24 2.5,19.5; B25 3.5,19.5; B26 4.5,19.5; B27 5.5,19.5; B28 6.5,19.5; B29 7.5,19.5; B30 8.5,19.5; B31 9.5,19.5; B32 10.5,19.5; B33 11.5,19.5; B34 12.5,19.5; B35 13.5,19.5; B36 14.5,19.5; B37 15.5,19.5; B38 16.5,19.5; B39 17.5,19.5; B40 18.5,19.5; B41 19.5,19.5; B42 20.5,19.5; BA1 -20.5,-19.5; BA2 -19.5,-19.5; BA3 -18.5,-19.5; BA4 -17.5,-19.5; BA5 -16.5,-19.5; BA6 -15.5,-19.5; BA7 -14.5,-19.5; BA8 -13.5,-19.5; BA9 -12.5,-19.5; BA10 -11.5,-19.5; BA11 -10.5,-19.5; BA12 -9.5,-19.5; BA13 -8.5,-19.5; BA14 -7.5,-19.5; BA15 -6.5,-19.5; BA16 -5.5,-19.5; BA17 -4.5,-19.5; BA18 -3.5,-19.5; BA19 -2.5,-19.5; BA20 -1.5,-19.5; BA21 -0.5,-19.5; BA22 0.5,-19.5; BA23 1.5,-19.5; BA24 2.5,-19.5; BA25 3.5,-19.5; BA26 4.5,-19.5; BA27 5.5,-19.5; BA28 6.5,-19.5; BA29 7.5,-19.5; BA30 8.5,-19.5; BA31 9.5,-19.5; BA32 10.5,-19.5; BA33 11.5,-19.5; BA34 12.5,-19.5; BA35 13.5,-19.5; BA36 14.5,-19.5; BA37 15.5,-19.5; BA38 16.5,-19.5; BA39 17.5,-19.5; BA40 18.5,-19.5; BA41 19.5,-19.5; BA42 20.5,-19.5; BB2 -19.5,-20.5; BB3 -18.5,-20.5; BB4 -17.5,-20.5; BB5 -16.5,-20.5; BB8 -13.5,-20.5; BB9 -12.5,-20.5; BB10 -11.5,-20.5; BB11 -10.5,-20.5; BB14 -7.5,-20.5; BB15 -6.5,-20.5; BB16 -5.5,-20.5; BB17 -4.5,-20.5; BB19 -2.5,-20.5; BB20 -1.5,-20.5; BB21 -0.5,-20.5; BB22 0.5,-20.5; BB23 1.5,-20.5; BB24 2.5,-20.5; BB25 3.5,-20.5; BB26 4.5,-20.5; BB27 5.5,-20.5; BB28 6.5,-20.5; BB29 7.5,-20.5; BB30 8.5,-20.5; BB31 9.5,-20.5; BB32 10.5,-20.5; BB33 11.5,-20.5; BB34 12.5,-20.5; BB35 13.5,-20.5; BB36 14.5,-20.5; BB37 15.5,-20.5; BB38 16.5,-20.5; BB39 17.5,-20.5; BB40 18.5,-20.5; BB41 19.5,-20.5; C1 -20.5,18.5; C2 -19.5,18.5; C3 -18.5,18.5; C4 -17.5,18.5; C5 -16.5,18.5; C6 -15.5,18.5; C7 -14.5,18.5; C8 -13.5,18.5; C9 -12.5,18.5; C10 -11.5,18.5; C11 -10.5,18.5; C12 -9.5,18.5; C13 -8.5,18.5; C14 -7.5,18.5; C15 -6.5,18.5; C16 -5.5,18.5; C17 -4.5,18.5; C18 -3.5,18.5; C19 -2.5,18.5; C20 -1.5,18.5; C21 -0.5,18.5; C22 0.5,18.5; C23 1.5,18.5; C24 2.5,18.5; C25 3.5,18.5; C26 4.5,18.5; C27 5.5,18.5; C28 6.5,18.5; C29 7.5,18.5; C30 8.5,18.5; C31 9.5,18.5; C32 10.5,18.5; C33 11.5,18.5; C34 12.5,18.5; C35 13.5,18.5; C36 14.5,18.5; C37 15.5,18.5; C38 16.5,18.5; C39 17.5,18.5; C40 18.5,18.5; C41 19.5,18.5; C42 20.5,18.5; D2 -19.5,17.5; D3 -18.5,17.5; D4 -17.5,17.5; D5 -16.5,17.5; D6 -15.5,17.5; D7 -14.5,17.5; D8 -13.5,17.5; D9 -12.5,17.5; D10 -11.5,17.5; D11 -10.5,17.5; D12 -9.5,17.5; D13 -8.5,17.5; D14 -7.5,17.5; D15 -6.5,17.5; D16 -5.5,17.5; D17 -4.5,17.5; D18 -3.5,17.5; D19 -2.5,17.5; D20 -1.5,17.5; D21 -0.5,17.5; D22 0.5,17.5; D23 1.5,17.5; D24 2.5,17.5; D25 3.5,17.5; D26 4.5,17.5; D27 5.5,17.5; D28 6.5,17.5; D29 7.5,17.5; D30 8.5,17.5; D31 9.5,17.5; D32 10.5,17.5; D33 11.5,17.5; D34 12.5,17.5; D35 13.5,17.5; D36 14.5,17.5; D37 15.5,17.5; D38 16.5,17.5; D39 17.5,17.5; D40 18.5,17.5; D41 19.5,17.5; D42 20.5,17.5; E1 -20.5,16.5; E2 -19.5,16.5; E3 -18.5,16.5; E4 -17.5,16.5; E5 -16.5,16.5; E6 -15.5,16.5; E7 -14.5,16.5; E8 -13.5,16.5; E9 -12.5,16.5; E10 -11.5,16.5; E11 -10.5,16.5; E12 -9.5,16.5; E13 -8.5,16.5; E14 -7.5,16.5; E15 -6.5,16.5; E16 -5.5,16.5; E17 -4.5,16.5; E18 -3.5,16.5; E19 -2.5,16.5; E20 -1.5,16.5; E21 -0.5,16.5; E22 0.5,16.5; E23 1.5,16.5; E24 2.5,16.5; E25 3.5,16.5; E26 4.5,16.5; E27 5.5,16.5; E28 6.5,16.5; E29 7.5,16.5; E30 8.5,16.5; E31 9.5,16.5; E32 10.5,16.5; E33 11.5,16.5; E34 12.5,16.5; E35 13.5,16.5; E36 14.5,16.5; E37 15.5,16.5; E38 16.5,16.5; E39 17.5,16.5; E40 18.5,16.5; E41 19.5,16.5; E42 20.5,16.5; F1 -20.5,15.5; F2 -19.5,15.5; F3 -18.5,15.5; F4 -17.5,15.5; F5 -16.5,15.5; F6 -15.5,15.5; F7 -14.5,15.5; F8 -13.5,15.5; F9 -12.5,15.5; F10 -11.5,15.5; F11 -10.5,15.5; F12 -9.5,15.5; F13 -8.5,15.5; F14 -7.5,15.5; F15 -6.5,15.5; F16 -5.5,15.5; F17 -4.5,15.5; F18 -3.5,15.5; F19 -2.5,15.5; F20 -1.5,15.5; F21 -0.5,15.5; F22 0.5,15.5; F23 1.5,15.5; F24 2.5,15.5; F25 3.5,15.5; F26 4.5,15.5; F27 5.5,15.5; F28 6.5,15.5; F29 7.5,15.5; F30 8.5,15.5; F31 9.5,15.5; F32 10.5,15.5; F33 11.5,15.5; F34 12.5,15.5; F35 13.5,15.5; F36 14.5,15.5; F37 15.5,15.5; F38 16.5,15.5; F39 17.5,15.5; F40 18.5,15.5; F41 19.5,15.5; F42 20.5,15.5; G1 -20.5,14.5; G2 -19.5,14.5; G3 -18.5,14.5; G4 -17.5,14.5; G5 -16.5,14.5; G6 -15.5,14.5; G7 -14.5,14.5; G8 -13.5,14.5; G9 -12.5,14.5; G10 -11.5,14.5; G11 -10.5,14.5; G12 -9.5,14.5; G13 -8.5,14.5; G14 -7.5,14.5; G15 -6.5,14.5; G16 -5.5,14.5; G17 -4.5,14.5; G18 -3.5,14.5; G19 -2.5,14.5; G20 -1.5,14.5; G21 -0.5,14.5; G22 0.5,14.5; G23 1.5,14.5; G24 2.5,14.5; G25 3.5,14.5; G26 4.5,14.5; G27 5.5,14.5; G28 6.5,14.5; G29 7.5,14.5; G30 8.5,14.5; G31 9.5,14.5; G32 10.5,14.5; G33 11.5,14.5; G34 12.5,14.5; G35 13.5,14.5; G36 14.5,14.5; G37 15.5,14.5; G38 16.5,14.5; G39 17.5,14.5; G40 18.5,14.5; G41 19.5,14.5; G42 20.5,14.5; H1 -20.5,13.5; H2 -19.5,13.5; H3 -18.5,13.5; H4 -17.5,13.5; H5 -16.5,13.5; H6 -15.5,13.5; H7 -14.5,13.5; H8 -13.5,13.5; H9 -12.5,13.5; H10 -11.5,13.5; H11 -10.5,13.5; H12 -9.5,13.5; H13 -8.5,13.5; H14 -7.5,13.5; H15 -6.5,13.5; H16 -5.5,13.5; H17 -4.5,13.5; H18 -3.5,13.5; H19 -2.5,13.5; H20 -1.5,13.5; H21 -0.5,13.5; H22 0.5,13.5; H23 1.5,13.5; H24 2.5,13.5; H25 3.5,13.5; H26 4.5,13.5; H27 5.5,13.5; H28 6.5,13.5; H29 7.5,13.5; H30 8.5,13.5; H31 9.5,13.5; H32 10.5,13.5; H33 11.5,13.5; H34 12.5,13.5; H35 13.5,13.5; H36 14.5,13.5; H37 15.5,13.5; H38 16.5,13.5; H39 17.5,13.5; H40 18.5,13.5; H41 19.5,13.5; H42 20.5,13.5; J2 -19.5,12.5; J3 -18.5,12.5; J4 -17.5,12.5; J5 -16.5,12.5; J6 -15.5,12.5; J7 -14.5,12.5; J8 -13.5,12.5; J9 -12.5,12.5; J10 -11.5,12.5; J11 -10.5,12.5; J12 -9.5,12.5; J13 -8.5,12.5; J14 -7.5,12.5; J15 -6.5,12.5; J16 -5.5,12.5; J17 -4.5,12.5; J18 -3.5,12.5; J19 -2.5,12.5; J20 -1.5,12.5; J21 -0.5,12.5; J22 0.5,12.5; J23 1.5,12.5; J24 2.5,12.5; J25 3.5,12.5; J26 4.5,12.5; J27 5.5,12.5; J28 6.5,12.5; J29 7.5,12.5; J30 8.5,12.5; J31 9.5,12.5; J32 10.5,12.5; J33 11.5,12.5; J34 12.5,12.5; J35 13.5,12.5; J36 14.5,12.5; J37 15.5,12.5; J38 16.5,12.5; J39 17.5,12.5; J40 18.5,12.5; J41 19.5,12.5; J42 20.5,12.5; K2 -19.5,11.5; K3 -18.5,11.5; K4 -17.5,11.5; K5 -16.5,11.5; K6 -15.5,11.5; K7 -14.5,11.5; K8 -13.5,11.5; K9 -12.5,11.5; K10 -11.5,11.5; K11 -10.5,11.5; K12 -9.5,11.5; K13 -8.5,11.5; K14 -7.5,11.5; K15 -6.5,11.5; K16 -5.5,11.5; K17 -4.5,11.5; K18 -3.5,11.5; K19 -2.5,11.5; K20 -1.5,11.5; K21 -0.5,11.5; K22 0.5,11.5; K23 1.5,11.5; K24 2.5,11.5; K25 3.5,11.5; K26 4.5,11.5; K27 5.5,11.5; K28 6.5,11.5; K29 7.5,11.5; K30 8.5,11.5; K31 9.5,11.5; K32 10.5,11.5; K33 11.5,11.5; K34 12.5,11.5; K35 13.5,11.5; K36 14.5,11.5; K37 15.5,11.5; K38 16.5,11.5; K39 17.5,11.5; K40 18.5,11.5; K41 19.5,11.5; K42 20.5,11.5; L1 -20.5,10.5; L2 -19.5,10.5; L3 -18.5,10.5; L4 -17.5,10.5; L5 -16.5,10.5; L6 -15.5,10.5; L7 -14.5,10.5; L8 -13.5,10.5; L9 -12.5,10.5; L10 -11.5,10.5; L11 -10.5,10.5; L12 -9.5,10.5; L13 -8.5,10.5; L14 -7.5,10.5; L15 -6.5,10.5; L16 -5.5,10.5; L17 -4.5,10.5; L18 -3.5,10.5; L19 -2.5,10.5; L20 -1.5,10.5; L21 -0.5,10.5; L22 0.5,10.5; L23 1.5,10.5; L24 2.5,10.5; L25 3.5,10.5; L26 4.5,10.5; L27 5.5,10.5; L28 6.5,10.5; L29 7.5,10.5; L30 8.5,10.5; L31 9.5,10.5; L32 10.5,10.5; L33 11.5,10.5; L34 12.5,10.5; L35 13.5,10.5; L36 14.5,10.5; L37 15.5,10.5; L38 16.5,10.5; L39 17.5,10.5; L40 18.5,10.5; L41 19.5,10.5; L42 20.5,10.5; M1 -20.5,9.5; M2 -19.5,9.5; M3 -18.5,9.5; M4 -17.5,9.5; M5 -16.5,9.5; M6 -15.5,9.5; M7 -14.5,9.5; M8 -13.5,9.5; M9 -12.5,9.5; M10 -11.5,9.5; M11 -10.5,9.5; M12 -9.5,9.5; M13 -8.5,9.5; M14 -7.5,9.5; M15 -6.5,9.5; M16 -5.5,9.5; M17 -4.5,9.5; M18 -3.5,9.5; M19 -2.5,9.5; M20 -1.5,9.5; M21 -0.5,9.5; M22 0.5,9.5; M23 1.5,9.5; M24 2.5,9.5; M25 3.5,9.5; M26 4.5,9.5; M27 5.5,9.5; M28 6.5,9.5; M29 7.5,9.5; M30 8.5,9.5; M31 9.5,9.5; M32 10.5,9.5; M33 11.5,9.5; M34 12.5,9.5; M35 13.5,9.5; M36 14.5,9.5; M37 15.5,9.5; M38 16.5,9.5; M39 17.5,9.5; M40 18.5,9.5; M41 19.5,9.5; M42 20.5,9.5; N1 -20.5,8.5; N2 -19.5,8.5; N3 -18.5,8.5; N4 -17.5,8.5; N5 -16.5,8.5; N6 -15.5,8.5; N7 -14.5,8.5; N8 -13.5,8.5; N9 -12.5,8.5; N10 -11.5,8.5; N11 -10.5,8.5; N12 -9.5,8.5; N13 -8.5,8.5; N14 -7.5,8.5; N15 -6.5,8.5; N16 -5.5,8.5; N17 -4.5,8.5; N18 -3.5,8.5; N19 -2.5,8.5; N20 -1.5,8.5; N21 -0.5,8.5; N22 0.5,8.5; N23 1.5,8.5; N24 2.5,8.5; N25 3.5,8.5; N26 4.5,8.5; N27 5.5,8.5; N28 6.5,8.5; N29 7.5,8.5; N30 8.5,8.5; N31 9.5,8.5; N32 10.5,8.5; N33 11.5,8.5; N34 12.5,8.5; N35 13.5,8.5; N36 14.5,8.5; N37 15.5,8.5; N38 16.5,8.5; N39 17.5,8.5; N40 18.5,8.5; N41 19.5,8.5; N42 20.5,8.5; P1 -20.5,7.5; P2 -19.5,7.5; P3 -18.5,7.5; P4 -17.5,7.5; P5 -16.5,7.5; P6 -15.5,7.5; P7 -14.5,7.5; P8 -13.5,7.5; P9 -12.5,7.5; P10 -11.5,7.5; P11 -10.5,7.5; P12 -9.5,7.5; P13 -8.5,7.5; P14 -7.5,7.5; P15 -6.5,7.5; P16 -5.5,7.5; P17 -4.5,7.5; P18 -3.5,7.5; P19 -2.5,7.5; P20 -1.5,7.5; P21 -0.5,7.5; P22 0.5,7.5; P23 1.5,7.5; P24 2.5,7.5; P25 3.5,7.5; P26 4.5,7.5; P27 5.5,7.5; P28 6.5,7.5; P29 7.5,7.5; P30 8.5,7.5; P31 9.5,7.5; P32 10.5,7.5; P33 11.5,7.5; P34 12.5,7.5; P35 13.5,7.5; P36 14.5,7.5; P37 15.5,7.5; P38 16.5,7.5; P39 17.5,7.5; P40 18.5,7.5; P41 19.5,7.5; P42 20.5,7.5; R2 -19.5,6.5; R3 -18.5,6.5; R4 -17.5,6.5; R5 -16.5,6.5; R6 -15.5,6.5; R7 -14.5,6.5; R8 -13.5,6.5; R9 -12.5,6.5; R10 -11.5,6.5; R11 -10.5,6.5; R12 -9.5,6.5; R13 -8.5,6.5; R14 -7.5,6.5; R15 -6.5,6.5; R16 -5.5,6.5; R17 -4.5,6.5; R18 -3.5,6.5; R19 -2.5,6.5; R20 -1.5,6.5; R21 -0.5,6.5; R22 0.5,6.5; R23 1.5,6.5; R24 2.5,6.5; R25 3.5,6.5; R26 4.5,6.5; R27 5.5,6.5; R28 6.5,6.5; R29 7.5,6.5; R30 8.5,6.5; R31 9.5,6.5; R32 10.5,6.5; R33 11.5,6.5; R34 12.5,6.5; R35 13.5,6.5; R36 14.5,6.5; R37 15.5,6.5; R38 16.5,6.5; R39 17.5,6.5; R40 18.5,6.5; R41 19.5,6.5; R42 20.5,6.5; T2 -19.5,5.5; T3 -18.5,5.5; T4 -17.5,5.5; T5 -16.5,5.5; T6 -15.5,5.5; T7 -14.5,5.5; T8 -13.5,5.5; T9 -12.5,5.5; T10 -11.5,5.5; T11 -10.5,5.5; T12 -9.5,5.5; T13 -8.5,5.5; T14 -7.5,5.5; T15 -6.5,5.5; T16 -5.5,5.5; T17 -4.5,5.5; T18 -3.5,5.5; T19 -2.5,5.5; T20 -1.5,5.5; T21 -0.5,5.5; T22 0.5,5.5; T23 1.5,5.5; T24 2.5,5.5; T25 3.5,5.5; T26 4.5,5.5; T27 5.5,5.5; T28 6.5,5.5; T29 7.5,5.5; T30 8.5,5.5; T31 9.5,5.5; T32 10.5,5.5; T33 11.5,5.5; T34 12.5,5.5; T35 13.5,5.5; T36 14.5,5.5; T37 15.5,5.5; T38 16.5,5.5; T39 17.5,5.5; T40 18.5,5.5; T41 19.5,5.5; T42 20.5,5.5; U1 -20.5,4.5; U2 -19.5,4.5; U3 -18.5,4.5; U4 -17.5,4.5; U5 -16.5,4.5; U6 -15.5,4.5; U7 -14.5,4.5; U8 -13.5,4.5; U9 -12.5,4.5; U10 -11.5,4.5; U11 -10.5,4.5; U12 -9.5,4.5; U13 -8.5,4.5; U14 -7.5,4.5; U15 -6.5,4.5; U16 -5.5,4.5; U17 -4.5,4.5; U18 -3.5,4.5; U19 -2.5,4.5; U20 -1.5,4.5; U21 -0.5,4.5; U22 0.5,4.5; U23 1.5,4.5; U24 2.5,4.5; U25 3.5,4.5; U26 4.5,4.5; U27 5.5,4.5; U28 6.5,4.5; U29 7.5,4.5; U30 8.5,4.5; U31 9.5,4.5; U32 10.5,4.5; U33 11.5,4.5; U34 12.5,4.5; U35 13.5,4.5; U36 14.5,4.5; U37 15.5,4.5; U38 16.5,4.5; U39 17.5,4.5; U40 18.5,4.5; U41 19.5,4.5; U42 20.5,4.5; V1 -20.5,3.5; V2 -19.5,3.5; V3 -18.5,3.5; V4 -17.5,3.5; V5 -16.5,3.5; V6 -15.5,3.5; V7 -14.5,3.5; V8 -13.5,3.5; V9 -12.5,3.5; V10 -11.5,3.5; V11 -10.5,3.5; V12 -9.5,3.5; V13 -8.5,3.5; V14 -7.5,3.5; V15 -6.5,3.5; V16 -5.5,3.5; V17 -4.5,3.5; V18 -3.5,3.5; V19 -2.5,3.5; V20 -1.5,3.5; V21 -0.5,3.5; V22 0.5,3.5; V23 1.5,3.5; V24 2.5,3.5; V25 3.5,3.5; V26 4.5,3.5; V27 5.5,3.5; V28 6.5,3.5; V29 7.5,3.5; V30 8.5,3.5; V31 9.5,3.5; V32 10.5,3.5; V33 11.5,3.5; V34 12.5,3.5; V35 13.5,3.5; V36 14.5,3.5; V37 15.5,3.5; V38 16.5,3.5; V39 17.5,3.5; V40 18.5,3.5; V41 19.5,3.5; V42 20.5,3.5; W1 -20.5,2.5; W2 -19.5,2.5; W3 -18.5,2.5; W4 -17.5,2.5; W5 -16.5,2.5; W6 -15.5,2.5; W7 -14.5,2.5; W8 -13.5,2.5; W9 -12.5,2.5; W10 -11.5,2.5; W11 -10.5,2.5; W12 -9.5,2.5; W13 -8.5,2.5; W14 -7.5,2.5; W15 -6.5,2.5; W16 -5.5,2.5; W17 -4.5,2.5; W18 -3.5,2.5; W19 -2.5,2.5; W20 -1.5,2.5; W21 -0.5,2.5; W22 0.5,2.5; W23 1.5,2.5; W24 2.5,2.5; W25 3.5,2.5; W26 4.5,2.5; W27 5.5,2.5; W28 6.5,2.5; W29 7.5,2.5; W30 8.5,2.5; W31 9.5,2.5; W32 10.5,2.5; W33 11.5,2.5; W34 12.5,2.5; W35 13.5,2.5; W36 14.5,2.5; W37 15.5,2.5; W38 16.5,2.5; W39 17.5,2.5; W40 18.5,2.5; W41 19.5,2.5; W42 20.5,2.5; Y1 -20.5,1.5; Y2 -19.5,1.5; Y3 -18.5,1.5; Y4 -17.5,1.5; Y5 -16.5,1.5; Y6 -15.5,1.5; Y7 -14.5,1.5; Y8 -13.5,1.5; Y9 -12.5,1.5; Y10 -11.5,1.5; Y11 -10.5,1.5; Y12 -9.5,1.5; Y13 -8.5,1.5; Y14 -7.5,1.5; Y15 -6.5,1.5; Y16 -5.5,1.5; Y17 -4.5,1.5; Y18 -3.5,1.5; Y19 -2.5,1.5; Y20 -1.5,1.5; Y21 -0.5,1.5; Y22 0.5,1.5; Y23 1.5,1.5; Y24 2.5,1.5; Y25 3.5,1.5; Y26 4.5,1.5; Y27 5.5,1.5; Y28 6.5,1.5; Y29 7.5,1.5; Y30 8.5,1.5; Y31 9.5,1.5; Y32 10.5,1.5; Y33 11.5,1.5; Y34 12.5,1.5; Y35 13.5,1.5; Y36 14.5,1.5; Y37 15.5,1.5; Y38 16.5,1.5; Y39 17.5,1.5; Y40 18.5,1.5; Y41 19.5,1.5; Y42 20.5,1.5